# Altium schematic symbol library 3.7 - MSP430系列单片机.SchLib: 80 symbols (part 2 of 2)
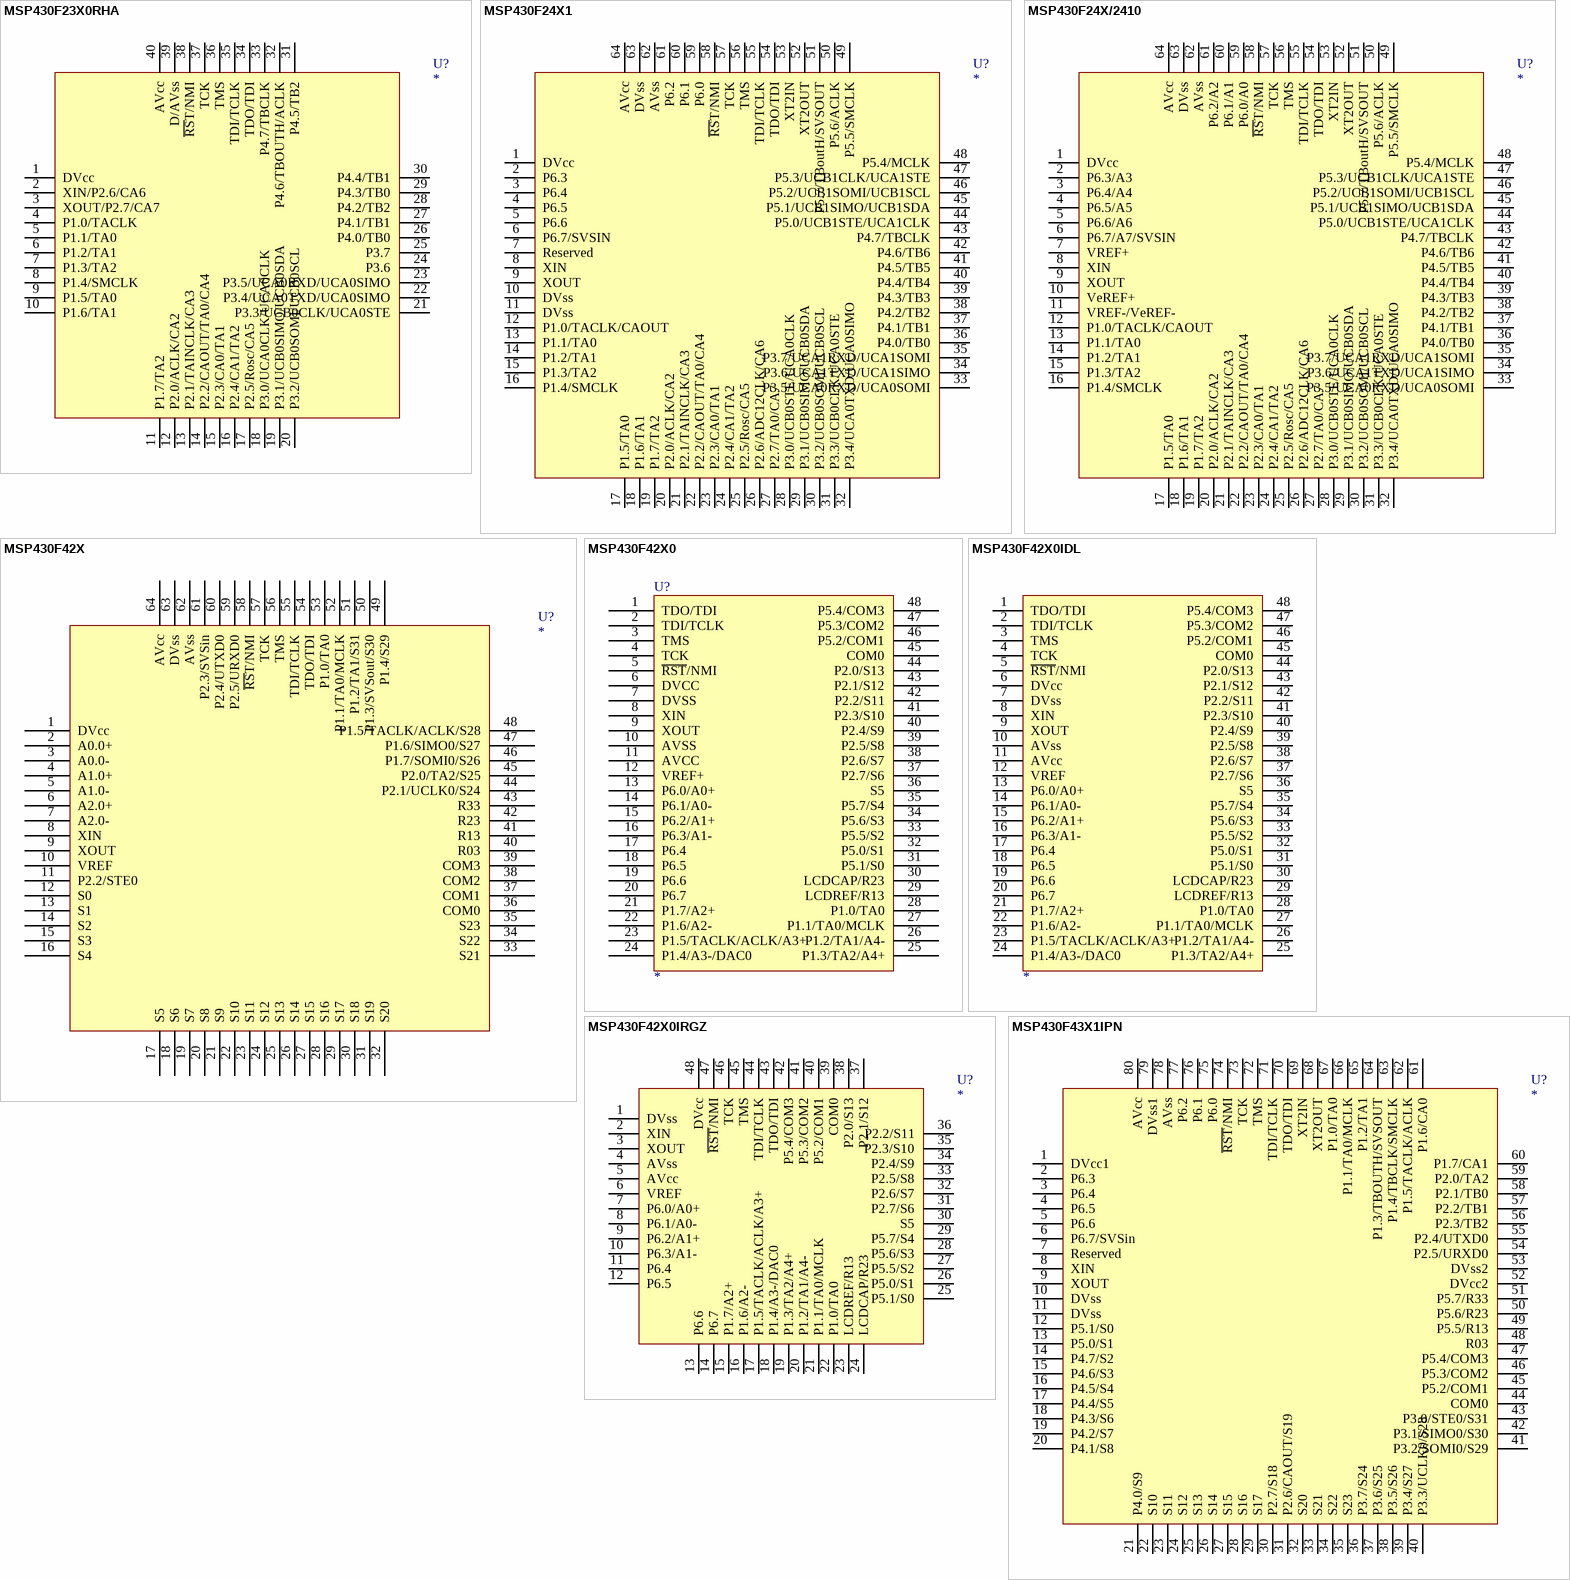
[diagram p12: symbols MSP430F23X0RHA to MSP430F43X1IPN]

## MSP430F24X/2410
designator U?
footprint S-PQFP-G64
pins: 1 DVcc (power), 2 P6.3/A3 (power), 3 P6.4/A4 (power), 4 P6.5/A5 (power), 5 P6.6/A6 (power), 6 P6.7/A7/SVSIN (power), 7 VREF+ (power), 8 XIN (power), 9 XOUT (power), 10 VeREF+ (power), 11 VREF-/VeREF- (power), 12 P1.0/TACLK/CAOUT (power), 13 P1.1/TA0 (power), 14 P1.2/TA1 (power), 15 P1.3/TA2 (power), 16 P1.4/SMCLK (power), 17 P1.5/TA0 (power), 18 P1.6/TA1 (power), 19 P1.7/TA2 (power), 20 P2.0/ACLK/CA2 (power), 21 P2.1/TAINCLK/CA3 (power), 22 P2.2/CAOUT/TA0/CA4 (power), 23 P2.3/CA0/TA1 (power), 24 P2.4/CA1/TA2 (power), 25 P2.5/Rosc/CA5 (power), 26 P2.6/ADC12CLK/CA6 (power), 27 P2.7/TA0/CA7 (power), 28 P3.0/UCB0STE/UCA0CLK (power), 29 P3.1/UCB0SIMO/UCB0SDA (power), 30 P3.2/UCB0SOMI/UCB0SCL (power), 31 P3.3/UCB0CLK/UCA0STE (power), 32 P3.4/UCA0TXD/UCA0SIMO (power), 33 P3.5/UCA0RXD/UCA0SOMI (power), 34 P3.6/UCA1TXD/UCA1SIMO (power), 35 P3.7/UCA1RXD/UCA1SOMI (power), 36 P4.0/TB0 (power), 37 P4.1/TB1 (power), 38 P4.2/TB2 (power), 39 P4.3/TB3 (power), 40 P4.4/TB4 (power), 41 P4.5/TB5 (power), 42 P4.6/TB6 (power), 43 P4.7/TBCLK (power), 44 P5.0/UCB1STE/UCA1CLK (power), 45 P5.1/UCB1SIMO/UCB1SDA (power), 46 P5.2/UCB1SOMI/UCB1SCL (power), 47 P5.3/UCB1CLK/UCA1STE (power), 48 P5.4/MCLK (power), 49 P5.5/SMCLK (power), 50 P5.6/ACLK (power), 51 P5.7/TBoutH/SVSOUT (power), 52 XT2OUT (power), 53 XT2IN (power), 54 TDO/TDI (power), 55 TDI/TCLK (power), 56 TMS (power), 57 TCK (power), 58 ~{RS}T/NMI (power), 59 P6.0/A0 (power), 60 P6.1/A1 (power), 61 P6.2/A2 (power), 62 AVss (power), 63 DVss (power), 64 AVcc (power)

## MSP430F42X
designator U?
footprint S-PQFP-G64
pins: 1 DVcc (power), 2 A0.0+ (power), 3 A0.0- (power), 4 A1.0+ (power), 5 A1.0- (power), 6 A2.0+ (power), 7 A2.0- (power), 8 XIN (power), 9 XOUT (power), 10 VREF (power), 11 P2.2/STE0 (power), 12 S0 (power), 13 S1 (power), 14 S2 (power), 15 S3 (power), 16 S4 (power), 17 S5 (power), 18 S6 (power), 19 S7 (power), 20 S8 (power), 21 S9 (power), 22 S10 (power), 23 S11 (power), 24 S12 (power), 25 S13 (power), 26 S14 (power), 27 S15 (power), 28 S16 (power), 29 S17 (power), 30 S18 (power), 31 S19 (power), 32 S20 (power), 33 S21 (power), 34 S22 (power), 35 S23 (power), 36 COM0 (power), 37 COM1 (power), 38 COM2 (power), 39 COM3 (power), 40 R03 (power), 41 R13 (power), 42 R23 (power), 43 R33 (power), 44 P2.1/UCLK0/S24 (power), 45 P2.0/TA2/S25 (power), 46 P1.7/SOMI0/S26 (power), 47 P1.6/SIMO0/S27 (power), 48 P1.5/TACLK/ACLK/S28 (power), 49 P1.4/S29 (power), 50 P1.3/SVSout/S30 (power), 51 P1.2/TA1/S31 (power), 52 P1.1/TA0/MCLK (power), 53 P1.0/TA0 (power), 54 TDO/TDI (power), 55 TDI/TCLK (power), 56 TMS (power), 57 TCK (power), 58 ~{RS}T/NMI (power), 59 P2.5/URXD0 (power), 60 P2.4/UTXD0 (power), 61 P2.3/SVSin (power), 62 AVss (power), 63 DVss (power), 64 AVcc (power)

## MSP430F42X0
designator U?
footprint R-PDSO-G48(DL)
footprint TSSOP48
pins: 1 TDO/TDI, 2 TDI/TCLK (power), 3 TMS (power), 4 TCK (power), 5 ~{RST}/NMI (power), 6 DVCC (power), 7 DVSS (power), 8 XIN (power), 9 XOUT (power), 10 AVSS (power), 11 AVCC (power), 12 VREF+ (power), 13 P6.0/A0+ (power), 14 P6.1/A0- (power), 15 P6.2/A1+ (power), 16 P6.3/A1- (power), 17 P6.4 (power), 18 P6.5 (power), 19 P6.6 (power), 20 P6.7 (power), 21 P1.7/A2+, 22 P1.6/A2-, 23 P1.5/TACLK/ACLK/A3+, 24 P1.4/A3-/DAC0, 25 P1.3/TA2/A4+, 26 P1.2/TA1/A4-, 27 P1.1/TA0/MCLK, 28 P1.0/TA0, 29 LCDREF/R13, 30 LCDCAP/R23, 31 P5.1/S0, 32 P5.0/S1, 33 P5.5/S2, 34 P5.6/S3, 35 P5.7/S4, 36 S5, 37 P2.7/S6, 38 P2.6/S7, 39 P2.5/S8, 40 P2.4/S9, 41 P2.3/S10, 42 P2.2/S11, 43 P2.1/S12, 44 P2.0/S13, 45 COM0, 46 P5.2/COM1, 47 P5.3/COM2, 48 P5.4/COM3

## MSP430F42X0IDL
designator ?
pins: 1 TDO/TDI, 2 TDI/TCLK (power), 3 TMS (power), 4 TCK (power), 5 ~{RST}/NMI (power), 6 DVcc (power), 7 DVss (power), 8 XIN (power), 9 XOUT (power), 10 AVss (power), 11 AVcc (power), 12 VREF (power), 13 P6.0/A0+ (power), 14 P6.1/A0- (power), 15 P6.2/A1+ (power), 16 P6.3/A1- (power), 17 P6.4 (power), 18 P6.5 (power), 19 P6.6 (power), 20 P6.7 (power), 21 P1.7/A2+, 22 P1.6/A2-, 23 P1.5/TACLK/ACLK/A3+, 24 P1.4/A3-/DAC0, 25 P1.3/TA2/A4+, 26 P1.2/TA1/A4-, 27 P1.1/TA0/MCLK, 28 P1.0/TA0, 29 LCDREF/R13, 30 LCDCAP/R23, 31 P5.1/S0, 32 P5.0/S1, 33 P5.5/S2, 34 P5.6/S3, 35 P5.7/S4, 36 S5, 37 P2.7/S6, 38 P2.6/S7, 39 P2.5/S8, 40 P2.4/S9, 41 P2.3/S10, 42 P2.2/S11, 43 P2.1/S12, 44 P2.0/S13, 45 COM0, 46 P5.2/COM1, 47 P5.3/COM2, 48 P5.4/COM3

## MSP430F42X0IRGZ
designator U?
footprint QFN48
pins: 1 DVss (power), 2 XIN (power), 3 XOUT (power), 4 AVss (power), 5 AVcc (power), 6 VREF (power), 7 P6.0/A0+ (power), 8 P6.1/A0- (power), 9 P6.2/A1+ (power), 10 P6.3/A1- (power), 11 P6.4 (power), 12 P6.5 (power), 13 P6.6 (power), 14 P6.7 (power), 15 P1.7/A2+, 16 P1.6/A2-, 17 P1.5/TACLK/ACLK/A3+, 18 P1.4/A3-/DAC0, 19 P1.3/TA2/A4+, 20 P1.2/TA1/A4-, 21 P1.1/TA0/MCLK, 22 P1.0/TA0, 23 LCDREF/R13, 24 LCDCAP/R23, 25 P5.1/S0, 26 P5.0/S1, 27 P5.5/S2, 28 P5.6/S3, 29 P5.7/S4, 30 S5, 31 P2.7/S6, 32 P2.6/S7, 33 P2.5/S8, 34 P2.4/S9, 35 P2.3/S10, 36 P2.2/S11, 37 P2.1/S12, 38 P2.0/S13, 39 COM0, 40 P5.2/COM1, 41 P5.3/COM2, 42 P5.4/COM3, 43 TDO/TDI, 44 TDI/TCLK (power), 45 TMS (power), 46 TCK (power), 47 ~{RST}/NMI (power), 48 DVcc (power)

## MSP430F43X1IPN
designator U?
footprint S-PQFP-G80
pins: 1 DVcc1 (power), 2 P6.3 (power), 3 P6.4 (power), 4 P6.5 (power), 5 P6.6 (power), 6 P6.7/SVSin (power), 7 Reserved (power), 8 XIN (power), 9 XOUT (power), 10 DVss (power), 11 DVss (power), 12 P5.1/S0 (power), 13 P5.0/S1 (power), 14 P4.7/S2 (power), 15 P4.6/S3 (power), 16 P4.5/S4 (power), 17 P4.4/S5 (power), 18 P4.3/S6 (power), 19 P4.2/S7 (power), 20 P4.1/S8 (power), 21 P4.0/S9 (power), 22 S10 (power), 23 S11 (power), 24 S12 (power), 25 S13 (power), 26 S14 (power), 27 S15 (power), 28 S16 (power), 29 S17 (power), 30 P2.7/S18 (power), 31 P2.6/CAOUT/S19 (power), 32 S20 (power), 33 S21 (power), 34 S22 (power), 35 S23 (power), 36 P3.7/S24 (power), 37 P3.6/S25 (power), 38 P3.5/S26 (power), 39 P3.4/S27 (power), 40 P3.3/UCLK0/S28 (power), 41 P3.2/SOMI0/S29 (power), 42 P3.1/SIMO0/S30 (power), 43 P3.0/STE0/S31 (power), 44 COM0 (power), 45 P5.2/COM1 (power), 46 P5.3/COM2 (power), 47 P5.4/COM3 (power), 48 R03 (power), 49 P5.5/R13 (power), 50 P5.6/R23 (power), 51 P5.7/R33 (power), 52 DVcc2 (power), 53 DVss2 (power), 54 P2.5/URXD0 (power), 55 P2.4/UTXD0 (power), 56 P2.3/TB2 (power), 57 P2.2/TB1 (power), 58 P2.1/TB0 (power), 59 P2.0/TA2 (power), 60 P1.7/CA1 (power), 61 P1.6/CA0 (power), 62 P1.5/TACLK/ACLK (power), 63 P1.4/TBCLK/SMCLK (power), 64 P1.3/TBOUTH/SVSOUT (power), 65 P1.2/TA1, 66 P1.1/TA0/MCLK, 67 P1.0/TA0, 68 XT2OUT, 69 XT2IN, 70 TDO/TDI, 71 TDI/TCLK, 72 TMS, 73 TCK, 74 ~{RST}/NMI, 75 P6.0, 76 P6.1, 77 P6.2, 78 AVss, 79 DVss1, 80 AVcc

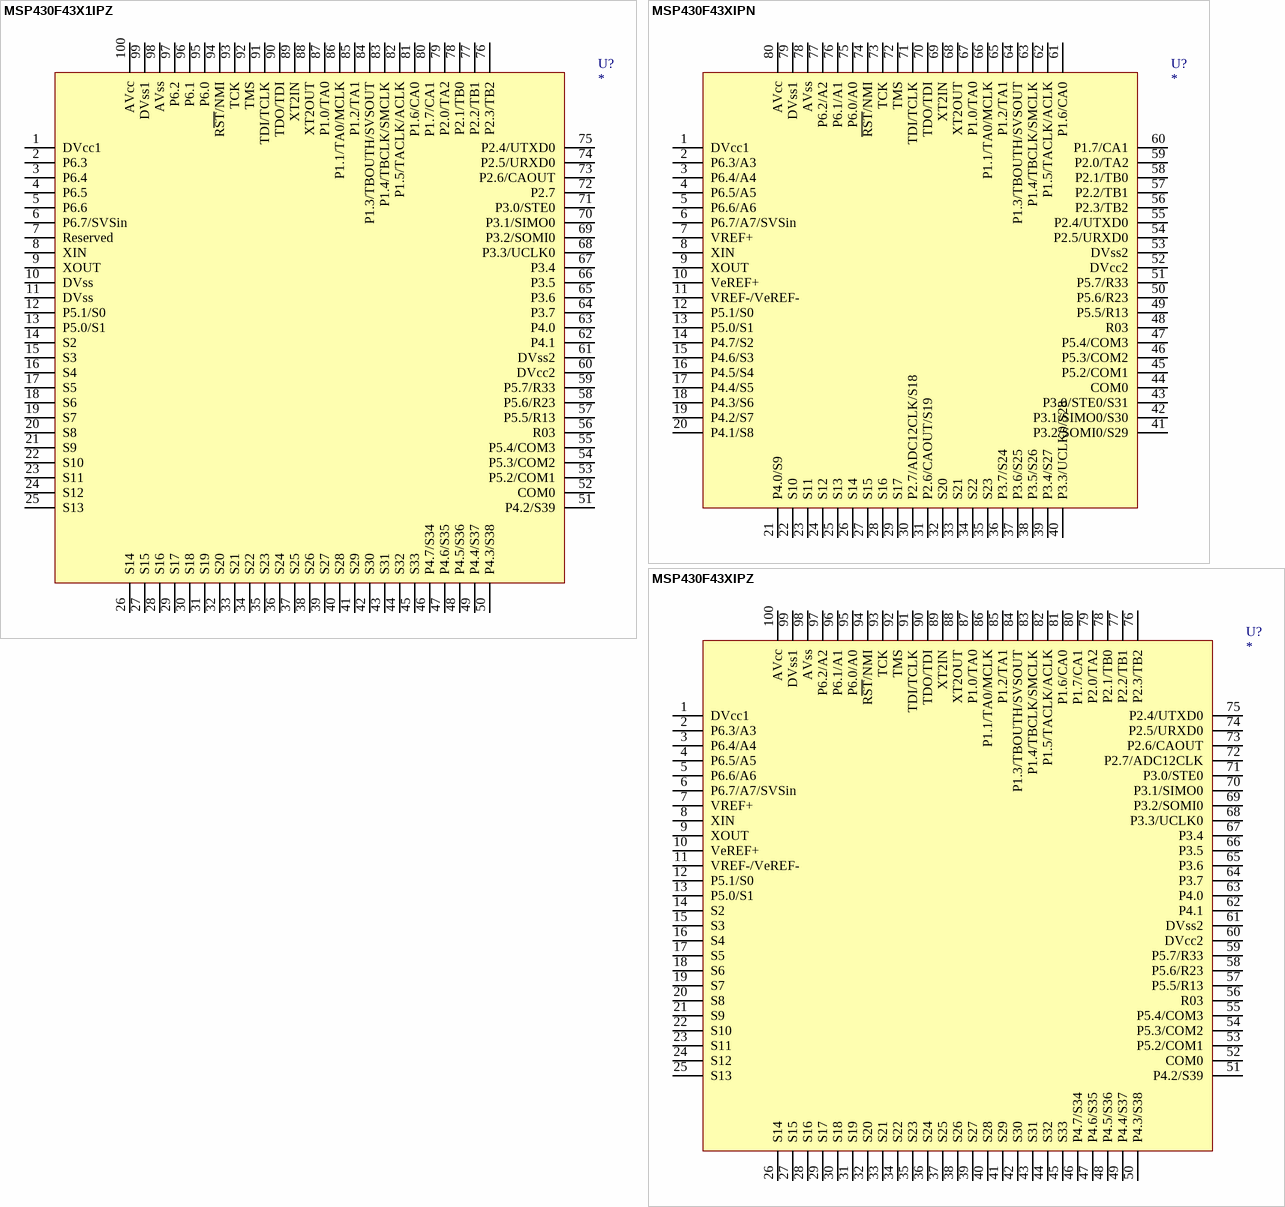
[diagram p6: symbols MSP430F43X1IPZ to MSP430F43XIPZ]

## MSP430F43X1IPZ
designator U?
footprint S-PQFP-G100
pins: 1 DVcc1 (power), 2 P6.3 (power), 3 P6.4 (power), 4 P6.5 (power), 5 P6.6 (power), 6 P6.7/SVSin (power), 7 Reserved (power), 8 XIN (power), 9 XOUT (power), 10 DVss (power), 11 DVss (power), 12 P5.1/S0 (power), 13 P5.0/S1 (power), 14 S2 (power), 15 S3 (power), 16 S4 (power), 17 S5 (power), 18 S6 (power), 19 S7 (power), 20 S8 (power), 21 S9 (power), 22 S10 (power), 23 S11 (power), 24 S12 (power), 25 S13 (power), 26 S14 (power), 27 S15 (power), 28 S16 (power), 29 S17 (power), 30 S18 (power), 31 S19 (power), 32 S20 (power), 33 S21 (power), 34 S22 (power), 35 S23 (power), 36 S24 (power), 37 S25 (power), 38 S26 (power), 39 S27 (power), 40 S28 (power), 41 S29 (power), 42 S30 (power), 43 S31 (power), 44 S32 (power), 45 S33 (power), 46 P4.7/S34 (power), 47 P4.6/S35 (power), 48 P4.5/S36 (power), 49 P4.4/S37 (power), 50 P4.3/S38 (power), 51 P4.2/S39 (power), 52 COM0 (power), 53 P5.2/COM1 (power), 54 P5.3/COM2 (power), 55 P5.4/COM3 (power), 56 R03 (power), 57 P5.5/R13 (power), 58 P5.6/R23 (power), 59 P5.7/R33 (power), 60 DVcc2 (power), 61 DVss2 (power), 62 P4.1 (power), 63 P4.0 (power), 64 P3.7 (power), 65 P3.6, 66 P3.5, 67 P3.4, 68 P3.3/UCLK0, 69 P3.2/SOMI0, 70 P3.1/SIMO0, 71 P3.0/STE0, 72 P2.7, 73 P2.6/CAOUT, 74 P2.5/URXD0, 75 P2.4/UTXD0, 76 P2.3/TB2, 77 P2.2/TB1, 78 P2.1/TB0, 79 P2.0/TA2, 80 P1.7/CA1, 81 P1.6/CA0, 82 P1.5/TACLK/ACLK, 83 P1.4/TBCLK/SMCLK, 84 P1.3/TBOUTH/SVSOUT, 85 P1.2/TA1, 86 P1.1/TA0/MCLK, 87 P1.0/TA0, 88 XT2OUT, 89 XT2IN, 90 TDO/TDI, 91 TDI/TCLK, 92 TMS, 93 TCK, 94 R~{ST}/NMI, 95 P6.0, 96 P6.1, 97 P6.2, 98 AVss, 99 DVss1, 100 AVcc

## MSP430F43XIPN
designator U?
footprint S-PQFP-G80
pins: 1 DVcc1 (power), 2 P6.3/A3 (power), 3 P6.4/A4 (power), 4 P6.5/A5 (power), 5 P6.6/A6 (power), 6 P6.7/A7/SVSin (power), 7 VREF+ (power), 8 XIN (power), 9 XOUT (power), 10 VeREF+ (power), 11 VREF-/VeREF- (power), 12 P5.1/S0 (power), 13 P5.0/S1 (power), 14 P4.7/S2 (power), 15 P4.6/S3 (power), 16 P4.5/S4 (power), 17 P4.4/S5 (power), 18 P4.3/S6 (power), 19 P4.2/S7 (power), 20 P4.1/S8 (power), 21 P4.0/S9 (power), 22 S10 (power), 23 S11 (power), 24 S12 (power), 25 S13 (power), 26 S14 (power), 27 S15 (power), 28 S16 (power), 29 S17 (power), 30 P2.7/ADC12CLK/S18 (power), 31 P2.6/CAOUT/S19 (power), 32 S20 (power), 33 S21 (power), 34 S22 (power), 35 S23 (power), 36 P3.7/S24 (power), 37 P3.6/S25 (power), 38 P3.5/S26 (power), 39 P3.4/S27 (power), 40 P3.3/UCLK0/S28 (power), 41 P3.2/SOMI0/S29 (power), 42 P3.1/SIMO0/S30 (power), 43 P3.0/STE0/S31 (power), 44 COM0 (power), 45 P5.2/COM1 (power), 46 P5.3/COM2 (power), 47 P5.4/COM3 (power), 48 R03 (power), 49 P5.5/R13 (power), 50 P5.6/R23 (power), 51 P5.7/R33 (power), 52 DVcc2 (power), 53 DVss2 (power), 54 P2.5/URXD0 (power), 55 P2.4/UTXD0 (power), 56 P2.3/TB2 (power), 57 P2.2/TB1 (power), 58 P2.1/TB0 (power), 59 P2.0/TA2 (power), 60 P1.7/CA1 (power), 61 P1.6/CA0 (power), 62 P1.5/TACLK/ACLK (power), 63 P1.4/TBCLK/SMCLK (power), 64 P1.3/TBOUTH/SVSOUT (power), 65 P1.2/TA1, 66 P1.1/TA0/MCLK, 67 P1.0/TA0, 68 XT2OUT, 69 XT2IN, 70 TDO/TDI, 71 TDI/TCLK, 72 TMS, 73 TCK, 74 ~{RST}/NMI, 75 P6.0/A0, 76 P6.1/A1, 77 P6.2/A2, 78 AVss, 79 DVss1, 80 AVcc

## MSP430F43XIPZ
designator U?
footprint S-PQFP-G100
pins: 1 DVcc1 (power), 2 P6.3/A3 (power), 3 P6.4/A4 (power), 4 P6.5/A5 (power), 5 P6.6/A6 (power), 6 P6.7/A7/SVSin (power), 7 VREF+ (power), 8 XIN (power), 9 XOUT (power), 10 VeREF+ (power), 11 VREF-/VeREF- (power), 12 P5.1/S0 (power), 13 P5.0/S1 (power), 14 S2 (power), 15 S3 (power), 16 S4 (power), 17 S5 (power), 18 S6 (power), 19 S7 (power), 20 S8 (power), 21 S9 (power), 22 S10 (power), 23 S11 (power), 24 S12 (power), 25 S13 (power), 26 S14 (power), 27 S15 (power), 28 S16 (power), 29 S17 (power), 30 S18 (power), 31 S19 (power), 32 S20 (power), 33 S21 (power), 34 S22 (power), 35 S23 (power), 36 S24 (power), 37 S25 (power), 38 S26 (power), 39 S27 (power), 40 S28 (power), 41 S29 (power), 42 S30 (power), 43 S31 (power), 44 S32 (power), 45 S33 (power), 46 P4.7/S34 (power), 47 P4.6/S35 (power), 48 P4.5/S36 (power), 49 P4.4/S37 (power), 50 P4.3/S38 (power), 51 P4.2/S39 (power), 52 COM0 (power), 53 P5.2/COM1 (power), 54 P5.3/COM2 (power), 55 P5.4/COM3 (power), 56 R03 (power), 57 P5.5/R13 (power), 58 P5.6/R23 (power), 59 P5.7/R33 (power), 60 DVcc2 (power), 61 DVss2 (power), 62 P4.1 (power), 63 P4.0 (power), 64 P3.7 (power), 65 P3.6, 66 P3.5, 67 P3.4, 68 P3.3/UCLK0, 69 P3.2/SOMI0, 70 P3.1/SIMO0, 71 P3.0/STE0, 72 P2.7/ADC12CLK, 73 P2.6/CAOUT, 74 P2.5/URXD0, 75 P2.4/UTXD0, 76 P2.3/TB2, 77 P2.2/TB1, 78 P2.1/TB0, 79 P2.0/TA2, 80 P1.7/CA1, 81 P1.6/CA0, 82 P1.5/TACLK/ACLK, 83 P1.4/TBCLK/SMCLK, 84 P1.3/TBOUTH/SVSOUT, 85 P1.2/TA1, 86 P1.1/TA0/MCLK, 87 P1.0/TA0, 88 XT2OUT, 89 XT2IN, 90 TDO/TDI, 91 TDI/TCLK, 92 TMS, 93 TCK, 94 R~{ST}/NMI, 95 P6.0/A0, 96 P6.1/A1, 97 P6.2/A2, 98 AVss, 99 DVss1, 100 AVcc

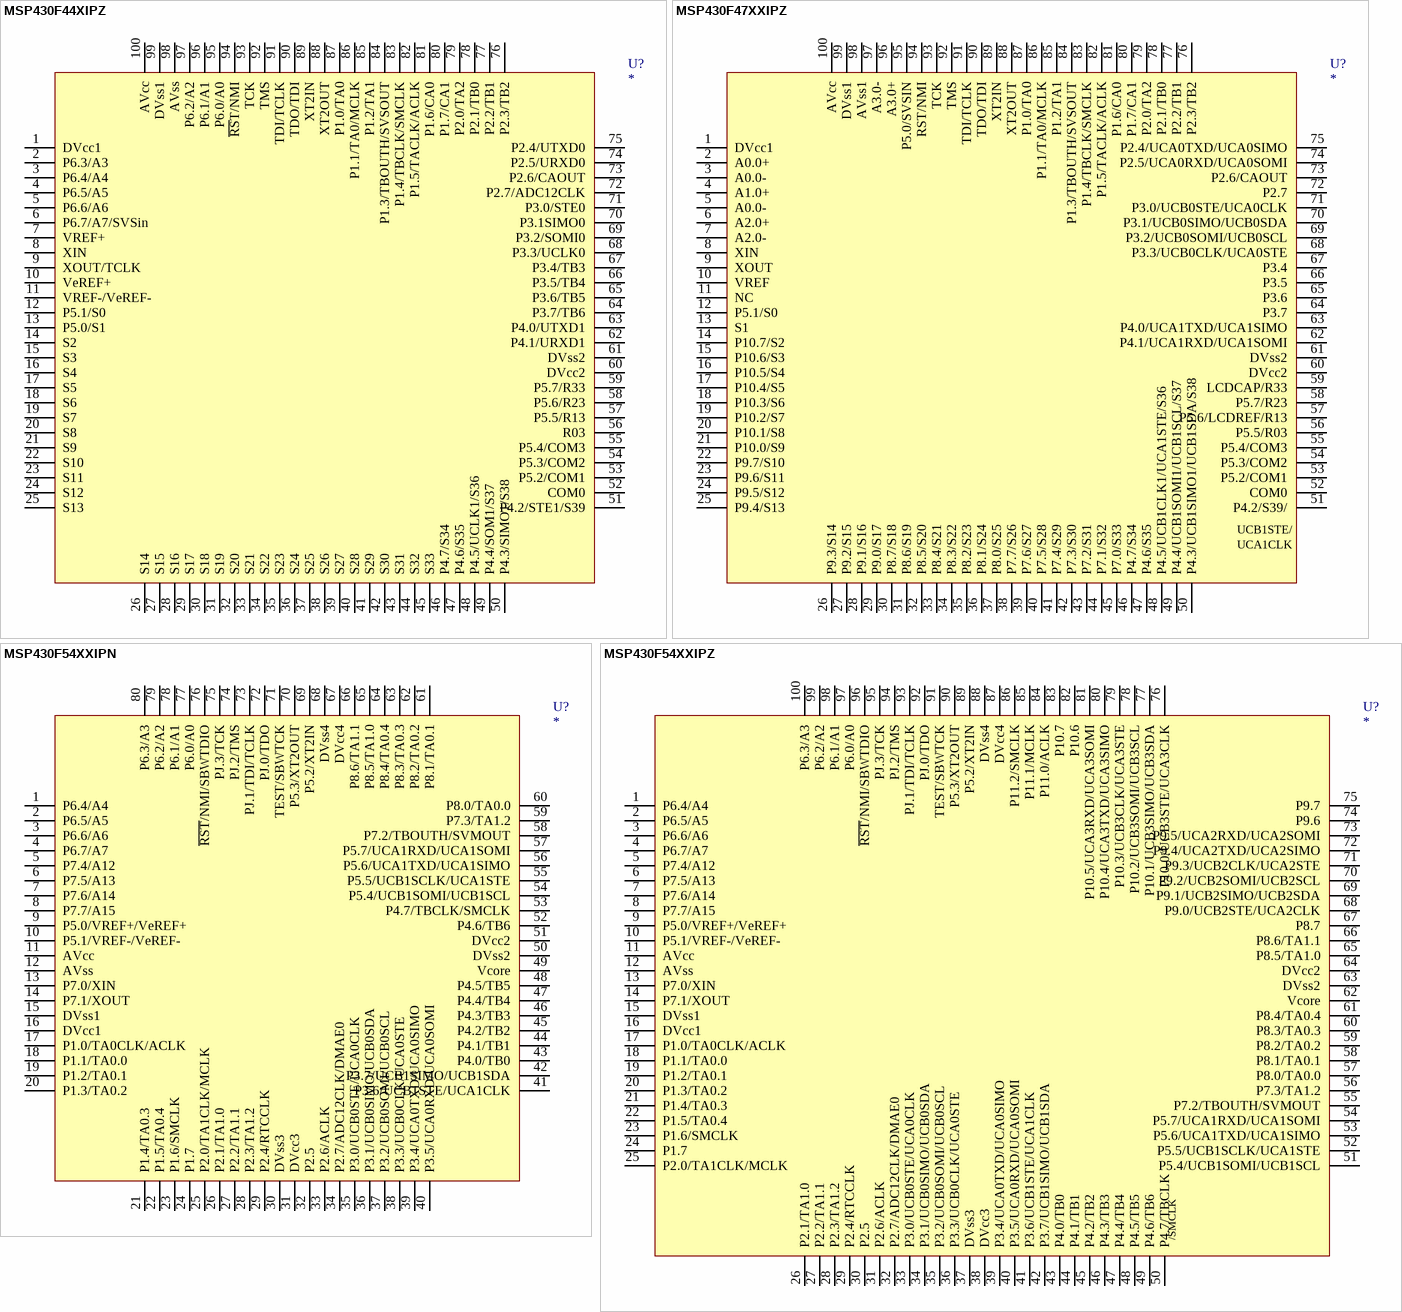
[diagram p7: symbols MSP430F44XIPZ to MSP430F54XXIPZ]

## MSP430F44XIPZ
designator U?
footprint S-PQFP-G100
pins: 1 DVcc1, 2 P6.3/A3, 3 P6.4/A4, 4 P6.5/A5, 5 P6.6/A6, 6 P6.7/A7/SVSin, 7 VREF+, 8 XIN, 9 XOUT/TCLK, 10 VeREF+, 11 VREF-/VeREF-, 12 P5.1/S0, 13 P5.0/S1, 14 S2, 15 S3, 16 S4, 17 S5, 18 S6, 19 S7, 20 S8, 21 S9, 22 S10, 23 S11, 24 S12, 25 S13, 26 S14, 27 S15, 28 S16, 29 S17, 30 S18, 31 S19, 32 S20, 33 S21, 34 S22, 35 S23, 36 S24, 37 S25, 38 S26, 39 S27, 40 S28, 41 S29, 42 S30, 43 S31, 44 S32, 45 S33, 46 P4.7/S34, 47 P4.6/S35, 48 P4.5/UCLK1/S36, 49 P4.4/SOM1/S37, 50 P4.3/SIMO1/S38, 51 P4.2/STE1/S39, 52 COM0, 53 P5.2/COM1, 54 P5.3/COM2, 55 P5.4/COM3, 56 R03, 57 P5.5/R13, 58 P5.6/R23, 59 P5.7/R33, 60 DVcc2, 61 DVss2, 62 P4.1/URXD1, 63 P4.0/UTXD1, 64 P3.7/TB6, 65 P3.6/TB5, 66 P3.5/TB4, 67 P3.4/TB3, 68 P3.3/UCLK0, 69 P3.2/SOMI0, 70 P3.1SIMO0, 71 P3.0/STE0, 72 P2.7/ADC12CLK, 73 P2.6/CAOUT, 74 P2.5/URXD0, 75 P2.4/UTXD0, 76 P2.3/TB2, 77 P2.2/TB1, 78 P2.1/TB0, 79 P2.0/TA2, 80 P1.7/CA1, 81 P1.6/CA0, 82 P1.5/TACLK/ACLK, 83 P1.4/TBCLK/SMCLK, 84 P1.3/TBOUTH/SVSOUT, 85 P1.2/TA1, 86 P1.1/TA0/MCLK, 87 P1.0/TA0, 88 XT2OUT, 89 XT2IN, 90 TDO/TDI, 91 TDI/TCLK, 92 TMS, 93 TCK, 94 ~{RS}T/NMI, 95 P6.0/A0, 96 P6.1/A1, 97 P6.2/A2, 98 AVss, 99 DVss1, 100 AVcc

## MSP430F47XXIPZ
designator U?
footprint S-PQFP-G100
pins: 1 DVcc1, 2 A0.0+, 3 A0.0-, 4 A1.0+, 5 A0.0-, 6 A2.0+, 7 A2.0-, 8 XIN, 9 XOUT, 10 VREF, 11 NC, 12 P5.1/S0, 13 S1, 14 P10.7/S2, 15 P10.6/S3, 16 P10.5/S4, 17 P10.4/S5, 18 P10.3/S6, 19 P10.2/S7, 20 P10.1/S8, 21 P10.0/S9, 22 P9.7/S10, 23 P9.6/S11, 24 P9.5/S12, 25 P9.4/S13, 26 P9.3/S14, 27 P9.2/S15, 28 P9.1/S16, 29 P9.0/S17, 30 P8.7/S18, 31 P8.6/S19, 32 P8.5/S20, 33 P8.4/S21, 34 P8.3/S22, 35 P8.2/S23, 36 P8.1/S24, 37 P8.0/S25, 38 P7.7/S26, 39 P7.6/S27, 40 P7.5/S28, 41 P7.4/S29, 42 P7.3/S30, 43 P7.2/S31, 44 P7.1/S32, 45 P7.0/S33, 46 P4.7/S34, 47 P4.6/S35, 48 P4.5/UCB1CLK1/UCA1STE/S36, 49 P4.4/UCB1SOMI1/UCB1SCL/S37, 50 P4.3/UCB1SIMO1/UCB1SDA/S38, 51 P4.2/S39/, 52 COM0, 53 P5.2/COM1, 54 P5.3/COM2, 55 P5.4/COM3, 56 P5.5/R03, 57 P5.6/LCDREF/R13, 58 P5.7/R23, 59 LCDCAP/R33, 60 DVcc2, 61 DVss2, 62 P4.1/UCA1RXD/UCA1SOMI, 63 P4.0/UCA1TXD/UCA1SIMO, 64 P3.7, 65 P3.6, 66 P3.5, 67 P3.4, 68 P3.3/UCB0CLK/UCA0STE, 69 P3.2/UCB0SOMI/UCB0SCL, 70 P3.1/UCB0SIMO/UCB0SDA, 71 P3.0/UCB0STE/UCA0CLK, 72 P2.7, 73 P2.6/CAOUT, 74 P2.5/UCA0RXD/UCA0SOMI, 75 P2.4/UCA0TXD/UCA0SIMO, 76 P2.3/TB2, 77 P2.2/TB1, 78 P2.1/TB0, 79 P2.0/TA2, 80 P1.7/CA1, 81 P1.6/CA0, 82 P1.5/TACLK/ACLK, 83 P1.4/TBCLK/SMCLK, 84 P1.3/TBOUTH/SVSOUT, 85 P1.2/TA1, 86 P1.1/TA0/MCLK, 87 P1.0/TA0, 88 XT2OUT, 89 XT2IN, 90 TDO/TDI, 91 TDI/TCLK, 92 TMS, 93 TCK, 94 RST/NMI, 95 P5.0/SVSIN, 96 A3.0+, 97 A3.0-, 98 AVss1, 99 DVss1, 100 AVcc
text: UCB1STE/; UCA1CLK

## MSP430F54XXIPN
designator U?
footprint S-PQFP-G80
pins: 1 P6.4/A4, 2 P6.5/A5, 3 P6.6/A6, 4 P6.7/A7, 5 P7.4/A12, 6 P7.5/A13, 7 P7.6/A14, 8 P7.7/A15, 9 P5.0/VREF+/VeREF+, 10 P5.1/VREF-/VeREF-, 11 AVcc, 12 AVss, 13 P7.0/XIN, 14 P7.1/XOUT, 15 DVss1, 16 DVcc1, 17 P1.0/TA0CLK/ACLK, 18 P1.1/TA0.0, 19 P1.2/TA0.1, 20 P1.3/TA0.2, 21 P1.4/TA0.3, 22 P1.5/TA0.4, 23 P1.6/SMCLK, 24 P1.7, 25 P2.0/TA1CLK/MCLK, 26 P2.1/TA1.0, 27 P2.2/TA1.1, 28 P2.3/TA1.2, 29 P2.4/RTCCLK, 30 DVss3, 31 DVcc3, 32 P2.5, 33 P2.6/ACLK, 34 P2.7/ADC12CLK/DMAE0, 35 P3.0/UCB0STE/UCA0CLK, 36 P3.1/UCB0SIMO/UCB0SDA, 37 P3.2/UCB0SOMI/UCB0SCL, 38 P3.3/UCB0CLK/UCA0STE, 39 P3.4/UCA0TXD/UCA0SIMO, 40 P3.5/UCA0RXD/UCA0SOMI, 41 P3.6/UCB1STE/UCA1CLK, 42 P3.7/UCB1SIMO/UCB1SDA, 43 P4.0/TB0, 44 P4.1/TB1, 45 P4.2/TB2, 46 P4.3/TB3, 47 P4.4/TB4, 48 P4.5/TB5, 49 Vcore, 50 DVss2, 51 DVcc2, 52 P4.6/TB6, 53 P4.7/TBCLK/SMCLK, 54 P5.4/UCB1SOMI/UCB1SCL, 55 P5.5/UCB1SCLK/UCA1STE, 56 P5.6/UCA1TXD/UCA1SIMO, 57 P5.7/UCA1RXD/UCA1SOMI, 58 P7.2/TBOUTH/SVMOUT, 59 P7.3/TA1.2, 60 P8.0/TA0.0, 61 P8.1/TA0.1, 62 P8.2/TA0.2, 63 P8.3/TA0.3, 64 P8.4/TA0.4, 65 P8.5/TA1.0, 66 P8.6/TA1.1, 67 DVcc4, 68 DVss4, 69 P5.2/XT2IN, 70 P5.3/XT2OUT, 71 TEST/SBWTCK, 72 PJ.0/TDO, 73 PJ.1/TDI/TCLK, 74 PJ.2/TMS, 75 PJ.3/TCK, 76 ~{RST}/NMI/SBWTDIO, 77 P6.0/A0, 78 P6.1/A1, 79 P6.2/A2, 80 P6.3/A3

## MSP430F54XXIPZ
designator U?
footprint S-PQFP-G100
pins: 1 P6.4/A4, 2 P6.5/A5, 3 P6.6/A6, 4 P6.7/A7, 5 P7.4/A12, 6 P7.5/A13, 7 P7.6/A14, 8 P7.7/A15, 9 P5.0/VREF+/VeREF+, 10 P5.1/VREF-/VeREF-, 11 AVcc, 12 AVss, 13 P7.0/XIN, 14 P7.1/XOUT, 15 DVss1, 16 DVcc1, 17 P1.0/TA0CLK/ACLK, 18 P1.1/TA0.0, 19 P1.2/TA0.1, 20 P1.3/TA0.2, 21 P1.4/TA0.3, 22 P1.5/TA0.4, 23 P1.6/SMCLK, 24 P1.7, 25 P2.0/TA1CLK/MCLK, 26 P2.1/TA1.0, 27 P2.2/TA1.1, 28 P2.3/TA1.2, 29 P2.4/RTCCLK, 30 P2.5, 31 P2.6/ACLK, 32 P2.7/ADC12CLK/DMAE0, 33 P3.0/UCB0STE/UCA0CLK, 34 P3.1/UCB0SIMO/UCB0SDA, 35 P3.2/UCB0SOMI/UCB0SCL, 36 P3.3/UCB0CLK/UCA0STE, 37 DVss3, 38 DVcc3, 39 P3.4/UCA0TXD/UCA0SIMO, 40 P3.5/UCA0RXD/UCA0SOMI, 41 P3.6/UCB1STE/UCA1CLK, 42 P3.7/UCB1SIMO/UCB1SDA, 43 P4.0/TB0, 44 P4.1/TB1, 45 P4.2/TB2, 46 P4.3/TB3, 47 P4.4/TB4, 48 P4.5/TB5, 49 P4.6/TB6, 50 P4.7/TBCLK, 51 P5.4/UCB1SOMI/UCB1SCL, 52 P5.5/UCB1SCLK/UCA1STE, 53 P5.6/UCA1TXD/UCA1SIMO, 54 P5.7/UCA1RXD/UCA1SOMI, 55 P7.2/TBOUTH/SVMOUT, 56 P7.3/TA1.2, 57 P8.0/TA0.0, 58 P8.1/TA0.1, 59 P8.2/TA0.2, 60 P8.3/TA0.3, 61 P8.4/TA0.4, 62 Vcore, 63 DVss2, 64 DVcc2, 65 P8.5/TA1.0, 66 P8.6/TA1.1, 67 P8.7, 68 P9.0/UCB2STE/UCA2CLK, 69 P9.1/UCB2SIMO/UCB2SDA, 70 P9.2/UCB2SOMI/UCB2SCL, 71 P9.3/UCB2CLK/UCA2STE, 72 P9.4/UCA2TXD/UCA2SIMO, 73 P9.5/UCA2RXD/UCA2SOMI, 74 P9.6, 75 P9.7, 76 P10.0/UCB3STE/UCA3CLK, 77 P10.1/UCB3SIMO/UCB3SDA, 78 P10.2/UCB3SOMI/UCB3SCL, 79 P10.3/UCB3CLK/UCA3STE, 80 P10.4/UCA3TXD/UCA3SIMO, 81 P10.5/UCA3RXD/UCA3SOMI, 82 P10.6, 83 P10.7, 84 P11.0/ACLK, 85 P11.1/MCLK, 86 P11.2/SMCLK, 87 DVcc4, 88 DVss4, 89 P5.2/XT2IN, 90 P5.3/XT2OUT, 91 TEST/SBWTCK, 92 PJ.0/TDO, 93 PJ.1/TDI/TCLK, 94 PJ.2/TMS, 95 PJ.3/TCK, 96 ~{RST}/NMI/SBWTDIO, 97 P6.0/A0, 98 P6.1/A1, 99 P6.2/A2, 100 P6.3/A3
text: /SMCLK

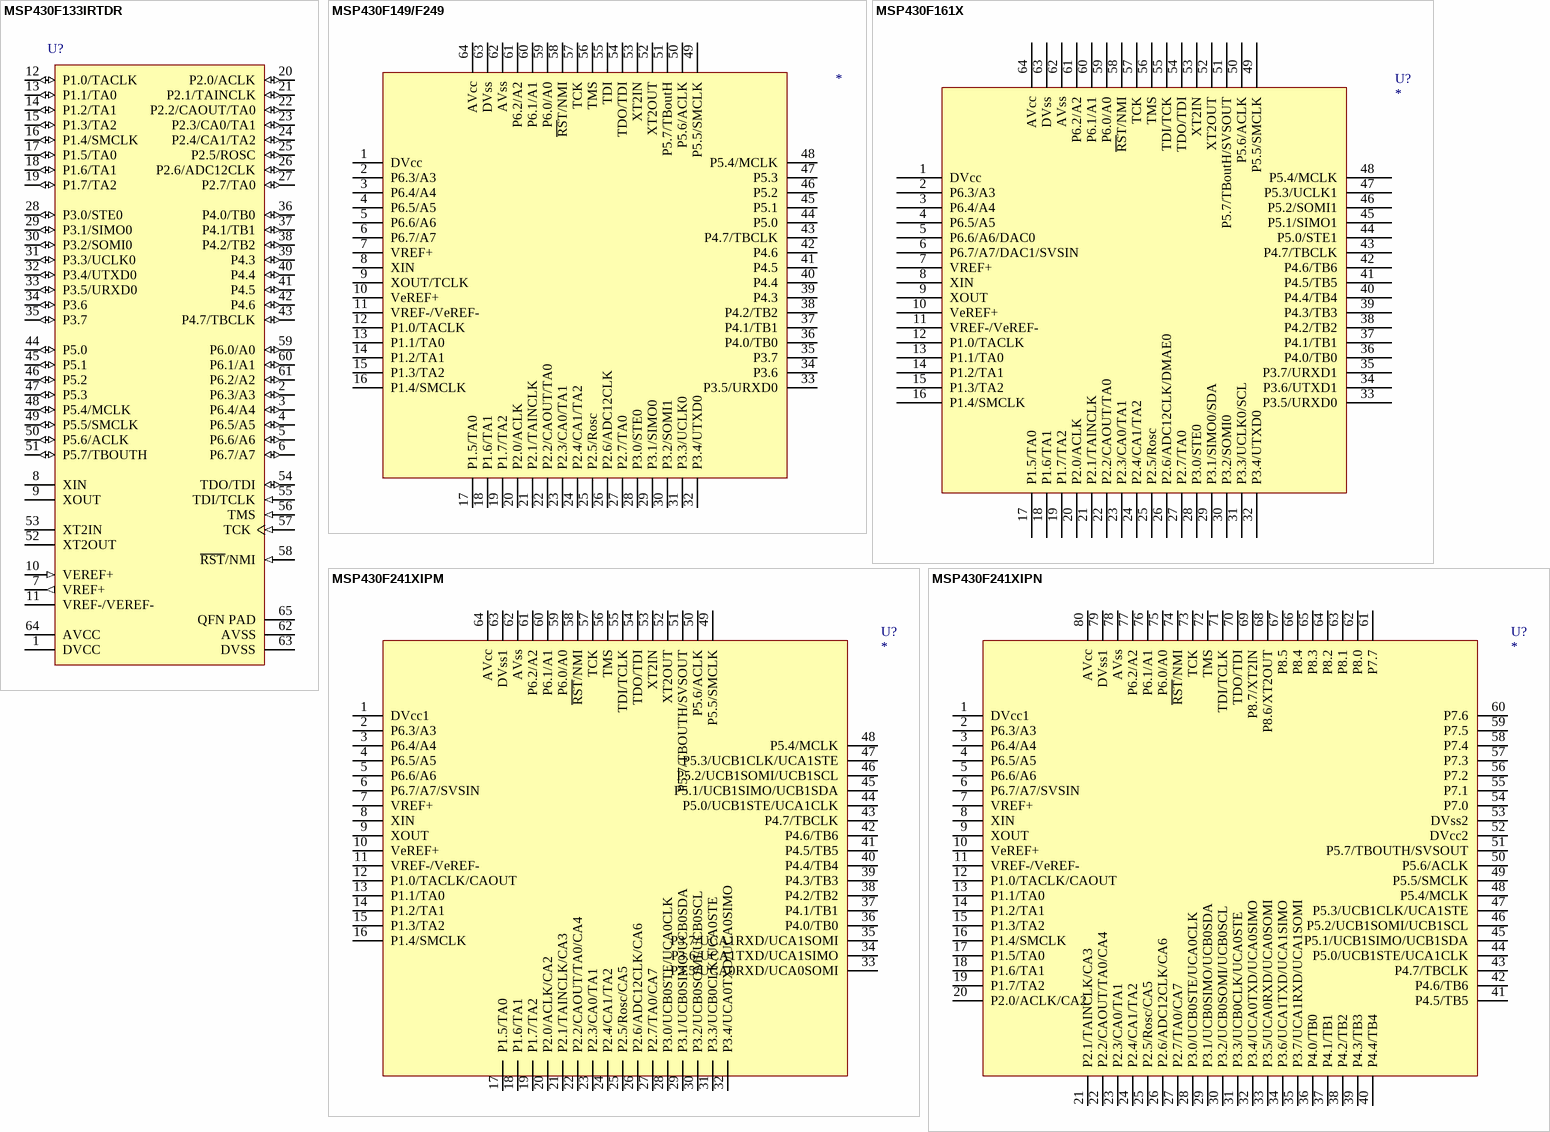
[diagram p8: symbols MSP430F133IRTDR to MSP430F241XIPN]

## MSP430F133IRTDR
designator U?
8 MHz Mixed Signal Microcontroller with 8 KB Flash, 256 B SRAM and 48 GPIOs, -40 to 85 degC, 64-pin QFN (RTD), Green (RoHS & no Sb/Br); 1.库作者: 冰凌猫; 2.库版本: v2.0 (2021.03.30); 3.交流分享: Q群514746572,开源更新,欢迎一起交流学习PCB设计; 4.作者声明: 旨为整合最全库集,欢迎转载,禁止商用！-冰凌猫; 5.备注说明: 该库已二次整合过网上各热销库,基本最全,无需重复搜购安装
footprint QFN64 9x9_N (64脚，长x宽x高：9x9x1mm，脚距：0.5mm  淘宝ID:黄晶宝石)
pins: 1 DVCC (power) "Digital supply voltage, positive terminal. Supplies all digital parts.", 2 P6.3/A3 (io), 3 P6.4/A4 (io), 4 P6.5/A5 (io), 5 P6.6/A6 (io), 6 P6.7/A7 (io), 7 VREF+ (out) "Output of positive terminal of the reference voltage in the ADC", 8 XIN "Input port for crystal oscillator XT1. Standard or watch crystals can be connected.", 9 XOUT "Output terminal of crystal oscillator XT1", 10 VEREF+ (in) "Input for an external reference voltage to the ADC", 11 VREF-/VEREF-, 12 P1.0/TACLK (io), 13 P1.1/TA0 (io), 14 P1.2/TA1 (io), 15 P1.3/TA2 (io), 16 P1.4/SMCLK (io), 17 P1.5/TA0 (io), 18 P1.6/TA1 (io), 19 P1.7/TA2 (io), 20 P2.0/ACLK (io), 21 P2.1/TAINCLK (io), 22 P2.2/CAOUT/TA0 (io), 23 P2.3/CA0/TA1 (io), 24 P2.4/CA1/TA2 (io), 25 P2.5/ROSC (io), 26 P2.6/ADC12CLK (io), 27 P2.7/TA0 (io), 28 P3.0/STE0 (io), 29 P3.1/SIMO0 (io), 30 P3.2/SOMI0 (io), 31 P3.3/UCLK0 (io), 32 P3.4/UTXD0 (io), 33 P3.5/URXD0 (io), 34 P3.6 (io) "General-purpose digital I/O pin", 35 P3.7 (io) "General-purpose digital I/O pin", 36 P4.0/TB0 (io), 37 P4.1/TB1 (io), 38 P4.2/TB2 (io), 39 P4.3 (io) "General-purpose digital I/O pin", 40 P4.4 (io) "General-purpose digital I/O pin", 41 P4.5 (io) "General-purpose digital I/O pin", 42 P4.6 (io) "General-purpose digital I/O pin", 43 P4.7/TBCLK (io), 44 P5.0 (io) "General-purpose digital I/O pin", 45 P5.1 (io) "General-purpose digital I/O pin", 46 P5.2 (io) "General-purpose digital I/O pin", 47 P5.3 (io) "General-purpose digital I/O pin", 48 P5.4/MCLK (io), 49 P5.5/SMCLK (io), 50 P5.6/ACLK (io), 51 P5.7/TBOUTH (io), 52 XT2OUT "Output terminal of crystal oscillator XT2", 53 XT2IN "Input port for crystal oscillator XT2. Only standard crystals can be connected.", 54 TDO/TDI (io), 55 TDI/TCLK (in), 56 TMS (in) "Test mode select. TMS is used as an input port for device programming and test.", 57 TCK (in) "Test clock. TCK is the clock input port for device programming test and bootstrap loader start (in Flash devices}.", 58 ~{RST}/NMI (in), 59 P6.0/A0 (io), 60 P6.1/A1 (io), 61 P6.2/A2 (io), 62 AVSS (power) "Analog supply voltage, negative terminal. Supplies the analog portion of the analog-to-digital converter.", 63 DVSS (power) "Digital supply voltage, negative terminal. Supplies all digital parts.", 64 AVCC (power) "Analog supply voltage, positive terminal. Supplies the analog portion of the analog-to-digital converter.", 65 QFN PAD (power) "QFN package pad connection to DVSS recommended."

## MSP430F149/F249
designator ?
pins: 1 DVcc (power), 2 P6.3/A3 (power), 3 P6.4/A4 (power), 4 P6.5/A5 (power), 5 P6.6/A6 (power), 6 P6.7/A7 (power), 7 VREF+ (power), 8 XIN (power), 9 XOUT/TCLK (power), 10 VeREF+ (power), 11 VREF-/VeREF- (power), 12 P1.0/TACLK (power), 13 P1.1/TA0 (power), 14 P1.2/TA1 (power), 15 P1.3/TA2 (power), 16 P1.4/SMCLK (power), 17 P1.5/TA0 (power), 18 P1.6/TA1 (power), 19 P1.7/TA2 (power), 20 P2.0/ACLK (power), 21 P2.1/TAINCLK (power), 22 P2.2/CAOUT/TA0 (power), 23 P2.3/CA0/TA1 (power), 24 P2.4/CA1/TA2 (power), 25 P2.5/Rosc (power), 26 P2.6/ADC12CLK (power), 27 P2.7/TA0 (power), 28 P3.0/STE0 (power), 29 P3.1/SIMO0 (power), 30 P3.2/SOMI1 (power), 31 P3.3/UCLK0 (power), 32 P3.4/UTXD0 (power), 33 P3.5/URXD0 (power), 34 P3.6 (power), 35 P3.7 (power), 36 P4.0/TB0 (power), 37 P4.1/TB1 (power), 38 P4.2/TB2 (power), 39 P4.3 (power), 40 P4.4 (power), 41 P4.5 (power), 42 P4.6 (power), 43 P4.7/TBCLK (power), 44 P5.0 (power), 45 P5.1 (power), 46 P5.2 (power), 47 P5.3 (power), 48 P5.4/MCLK (power), 49 P5.5/SMCLK (power), 50 P5.6/ACLK (power), 51 P5.7/TBoutH (power), 52 XT2OUT (power), 53 XT2IN (power), 54 TDO/TDI (power), 55 TDI (power), 56 TMS (power), 57 TCK (power), 58 ~{RS}T/NMI (power), 59 P6.0/A0 (power), 60 P6.1/A1 (power), 61 P6.2/A2 (power), 62 AVss (power), 63 DVss (power), 64 AVcc (power)

## MSP430F161X
designator U?
footprint S-PQFP-G64
footprint QFN64
pins: 1 DVcc (power), 2 P6.3/A3 (power), 3 P6.4/A4 (power), 4 P6.5/A5 (power), 5 P6.6/A6/DAC0 (power), 6 P6.7/A7/DAC1/SVSIN (power), 7 VREF+ (power), 8 XIN (power), 9 XOUT (power), 10 VeREF+ (power), 11 VREF-/VeREF- (power), 12 P1.0/TACLK (power), 13 P1.1/TA0 (power), 14 P1.2/TA1 (power), 15 P1.3/TA2 (power), 16 P1.4/SMCLK (power), 17 P1.5/TA0 (power), 18 P1.6/TA1 (power), 19 P1.7/TA2 (power), 20 P2.0/ACLK (power), 21 P2.1/TAINCLK (power), 22 P2.2/CAOUT/TA0 (power), 23 P2.3/CA0/TA1 (power), 24 P2.4/CA1/TA2 (power), 25 P2.5/Rosc (power), 26 P2.6/ADC12CLK/DMAE0 (power), 27 P2.7/TA0 (power), 28 P3.0/STE0 (power), 29 P3.1/SIMO0/SDA (power), 30 P3.2/SOMI0 (power), 31 P3.3/UCLK0/SCL (power), 32 P3.4/UTXD0 (power), 33 P3.5/URXD0 (power), 34 P3.6/UTXD1 (power), 35 P3.7/URXD1 (power), 36 P4.0/TB0 (power), 37 P4.1/TB1 (power), 38 P4.2/TB2 (power), 39 P4.3/TB3 (power), 40 P4.4/TB4 (power), 41 P4.5/TB5 (power), 42 P4.6/TB6 (power), 43 P4.7/TBCLK (power), 44 P5.0/STE1 (power), 45 P5.1/SIMO1 (power), 46 P5.2/SOMI1 (power), 47 P5.3/UCLK1 (power), 48 P5.4/MCLK (power), 49 P5.5/SMCLK (power), 50 P5.6/ACLK (power), 51 P5.7/TBoutH/SVSOUT (power), 52 XT2OUT (power), 53 XT2IN (power), 54 TDO/TDI (power), 55 TDI/TCK (power), 56 TMS (power), 57 TCK (power), 58 ~{RS}T/NMI (power), 59 P6.0/A0 (power), 60 P6.1/A1 (power), 61 P6.2/A2 (power), 62 AVss (power), 63 DVss (power), 64 AVcc (power)

## MSP430F241XIPM
designator U?
footprint S-PQFP-G64
pins: 1 DVcc1, 2 P6.3/A3, 3 P6.4/A4, 4 P6.5/A5, 5 P6.6/A6, 6 P6.7/A7/SVSIN, 7 VREF+, 8 XIN, 9 XOUT, 10 VeREF+, 11 VREF-/VeREF-, 12 P1.0/TACLK/CAOUT, 13 P1.1/TA0, 14 P1.2/TA1, 15 P1.3/TA2, 16 P1.4/SMCLK, 17 P1.5/TA0, 18 P1.6/TA1, 19 P1.7/TA2, 20 P2.0/ACLK/CA2, 21 P2.1/TAINCLK/CA3, 22 P2.2/CAOUT/TA0/CA4, 23 P2.3/CA0/TA1, 24 P2.4/CA1/TA2, 25 P2.5/Rosc/CA5, 26 P2.6/ADC12CLK/CA6, 27 P2.7/TA0/CA7, 28 P3.0/UCB0STE/UCA0CLK, 29 P3.1/UCB0SIMO/UCB0SDA, 30 P3.2/UCB0SOMI/UCB0SCL, 31 P3.3/UCB0CLK/UCA0STE, 32 P3.4/UCA0TXD/UCA0SIMO, 33 P3.5/UCA0RXD/UCA0SOMI, 34 P3.6/UCA1TXD/UCA1SIMO, 35 P3.7/UCA1RXD/UCA1SOMI, 36 P4.0/TB0, 37 P4.1/TB1, 38 P4.2/TB2, 39 P4.3/TB3, 40 P4.4/TB4, 41 P4.5/TB5, 42 P4.6/TB6, 43 P4.7/TBCLK, 44 P5.0/UCB1STE/UCA1CLK, 45 P5.1/UCB1SIMO/UCB1SDA, 46 P5.2/UCB1SOMI/UCB1SCL, 47 P5.3/UCB1CLK/UCA1STE, 48 P5.4/MCLK, 49 P5.5/SMCLK, 50 P5.6/ACLK, 51 P5.7/TBOUTH/SVSOUT, 52 XT2OUT, 53 XT2IN, 54 TDO/TDI, 55 TDI/TCLK, 56 TMS, 57 TCK, 58 ~{RST}/NMI, 59 P6.0/A0, 60 P6.1/A1, 61 P6.2/A2, 62 AVss, 63 DVss1, 64 AVcc

## MSP430F241XIPN
designator U?
footprint S-PQFP-G80
pins: 1 DVcc1, 2 P6.3/A3, 3 P6.4/A4, 4 P6.5/A5, 5 P6.6/A6, 6 P6.7/A7/SVSIN, 7 VREF+, 8 XIN, 9 XOUT, 10 VeREF+, 11 VREF-/VeREF-, 12 P1.0/TACLK/CAOUT, 13 P1.1/TA0, 14 P1.2/TA1, 15 P1.3/TA2, 16 P1.4/SMCLK, 17 P1.5/TA0, 18 P1.6/TA1, 19 P1.7/TA2, 20 P2.0/ACLK/CA2, 21 P2.1/TAINCLK/CA3, 22 P2.2/CAOUT/TA0/CA4, 23 P2.3/CA0/TA1, 24 P2.4/CA1/TA2, 25 P2.5/Rosc/CA5, 26 P2.6/ADC12CLK/CA6, 27 P2.7/TA0/CA7, 28 P3.0/UCB0STE/UCA0CLK, 29 P3.1/UCB0SIMO/UCB0SDA, 30 P3.2/UCB0SOMI/UCB0SCL, 31 P3.3/UCB0CLK/UCA0STE, 32 P3.4/UCA0TXD/UCA0SIMO, 33 P3.5/UCA0RXD/UCA0SOMI, 34 P3.6/UCA1TXD/UCA1SIMO, 35 P3.7/UCA1RXD/UCA1SOMI, 36 P4.0/TB0, 37 P4.1/TB1, 38 P4.2/TB2, 39 P4.3/TB3, 40 P4.4/TB4, 41 P4.5/TB5, 42 P4.6/TB6, 43 P4.7/TBCLK, 44 P5.0/UCB1STE/UCA1CLK, 45 P5.1/UCB1SIMO/UCB1SDA, 46 P5.2/UCB1SOMI/UCB1SCL, 47 P5.3/UCB1CLK/UCA1STE, 48 P5.4/MCLK, 49 P5.5/SMCLK, 50 P5.6/ACLK, 51 P5.7/TBOUTH/SVSOUT, 52 DVcc2, 53 DVss2, 54 P7.0, 55 P7.1, 56 P7.2, 57 P7.3, 58 P7.4, 59 P7.5, 60 P7.6, 61 P7.7, 62 P8.0, 63 P8.1, 64 P8.2, 65 P8.3, 66 P8.4, 67 P8.5, 68 P8.6/XT2OUT, 69 P8.7/XT2IN, 70 TDO/TDI, 71 TDI/TCLK, 72 TMS, 73 TCK, 74 ~{RST}/NMI, 75 P6.0/A0, 76 P6.1/A1, 77 P6.2/A2, 78 AVss, 79 DVss1, 80 AVcc

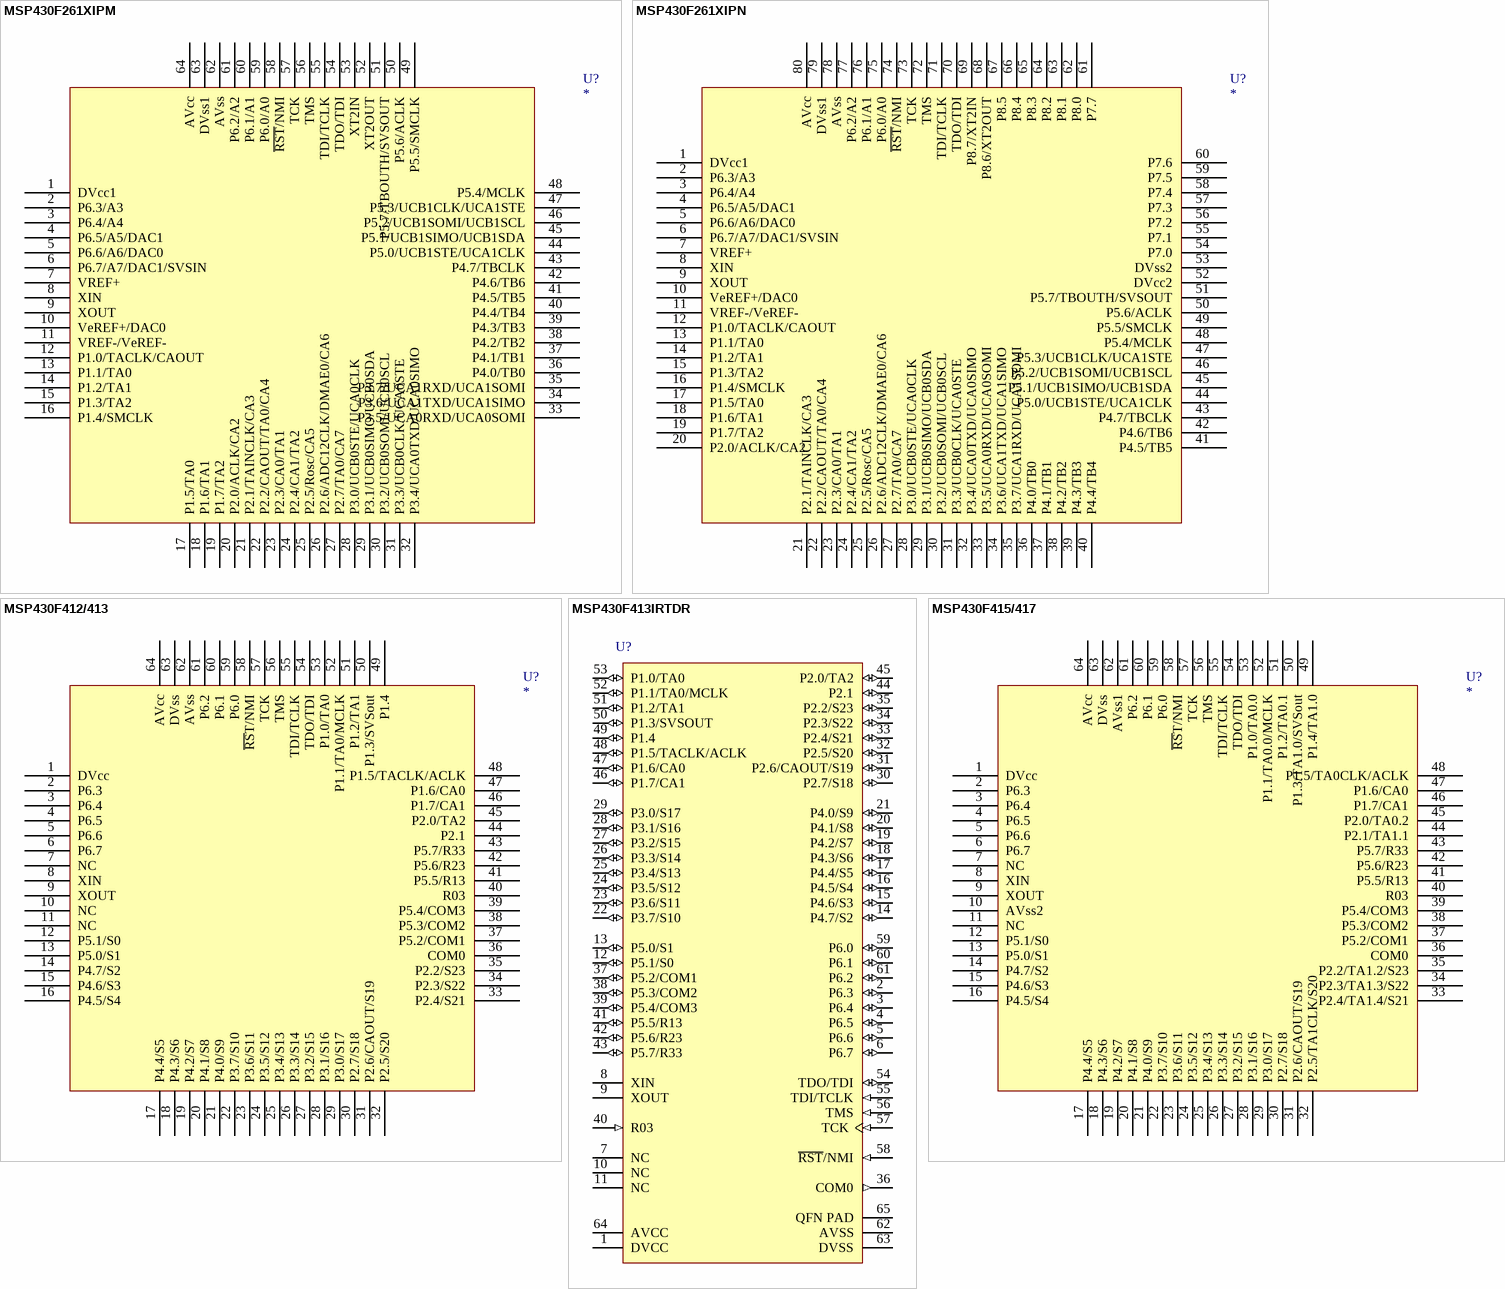
[diagram p9: symbols MSP430F261XIPM to MSP430F415/417]

## MSP430F261XIPM
designator U?
footprint S-PQFP-G64
pins: 1 DVcc1, 2 P6.3/A3, 3 P6.4/A4, 4 P6.5/A5/DAC1, 5 P6.6/A6/DAC0, 6 P6.7/A7/DAC1/SVSIN, 7 VREF+, 8 XIN, 9 XOUT, 10 VeREF+/DAC0, 11 VREF-/VeREF-, 12 P1.0/TACLK/CAOUT, 13 P1.1/TA0, 14 P1.2/TA1, 15 P1.3/TA2, 16 P1.4/SMCLK, 17 P1.5/TA0, 18 P1.6/TA1, 19 P1.7/TA2, 20 P2.0/ACLK/CA2, 21 P2.1/TAINCLK/CA3, 22 P2.2/CAOUT/TA0/CA4, 23 P2.3/CA0/TA1, 24 P2.4/CA1/TA2, 25 P2.5/Rosc/CA5, 26 P2.6/ADC12CLK/DMAE0/CA6, 27 P2.7/TA0/CA7, 28 P3.0/UCB0STE/UCA0CLK, 29 P3.1/UCB0SIMO/UCB0SDA, 30 P3.2/UCB0SOMI/UCB0SCL, 31 P3.3/UCB0CLK/UCA0STE, 32 P3.4/UCA0TXD/UCA0SIMO, 33 P3.5/UCA0RXD/UCA0SOMI, 34 P3.6/UCA1TXD/UCA1SIMO, 35 P3.7/UCA1RXD/UCA1SOMI, 36 P4.0/TB0, 37 P4.1/TB1, 38 P4.2/TB2, 39 P4.3/TB3, 40 P4.4/TB4, 41 P4.5/TB5, 42 P4.6/TB6, 43 P4.7/TBCLK, 44 P5.0/UCB1STE/UCA1CLK, 45 P5.1/UCB1SIMO/UCB1SDA, 46 P5.2/UCB1SOMI/UCB1SCL, 47 P5.3/UCB1CLK/UCA1STE, 48 P5.4/MCLK, 49 P5.5/SMCLK, 50 P5.6/ACLK, 51 P5.7/TBOUTH/SVSOUT, 52 XT2OUT, 53 XT2IN, 54 TDO/TDI, 55 TDI/TCLK, 56 TMS, 57 TCK, 58 ~{RST}/NMI, 59 P6.0/A0, 60 P6.1/A1, 61 P6.2/A2, 62 AVss, 63 DVss1, 64 AVcc

## MSP430F261XIPN
designator U?
MSP430F261XIPN
footprint S-PQFP-G80
pins: 1 DVcc1, 2 P6.3/A3, 3 P6.4/A4, 4 P6.5/A5/DAC1, 5 P6.6/A6/DAC0, 6 P6.7/A7/DAC1/SVSIN, 7 VREF+, 8 XIN, 9 XOUT, 10 VeREF+/DAC0, 11 VREF-/VeREF-, 12 P1.0/TACLK/CAOUT, 13 P1.1/TA0, 14 P1.2/TA1, 15 P1.3/TA2, 16 P1.4/SMCLK, 17 P1.5/TA0, 18 P1.6/TA1, 19 P1.7/TA2, 20 P2.0/ACLK/CA2, 21 P2.1/TAINCLK/CA3, 22 P2.2/CAOUT/TA0/CA4, 23 P2.3/CA0/TA1, 24 P2.4/CA1/TA2, 25 P2.5/Rosc/CA5, 26 P2.6/ADC12CLK/DMAE0/CA6, 27 P2.7/TA0/CA7, 28 P3.0/UCB0STE/UCA0CLK, 29 P3.1/UCB0SIMO/UCB0SDA, 30 P3.2/UCB0SOMI/UCB0SCL, 31 P3.3/UCB0CLK/UCA0STE, 32 P3.4/UCA0TXD/UCA0SIMO, 33 P3.5/UCA0RXD/UCA0SOMI, 34 P3.6/UCA1TXD/UCA1SIMO, 35 P3.7/UCA1RXD/UCA1SOMI, 36 P4.0/TB0, 37 P4.1/TB1, 38 P4.2/TB2, 39 P4.3/TB3, 40 P4.4/TB4, 41 P4.5/TB5, 42 P4.6/TB6, 43 P4.7/TBCLK, 44 P5.0/UCB1STE/UCA1CLK, 45 P5.1/UCB1SIMO/UCB1SDA, 46 P5.2/UCB1SOMI/UCB1SCL, 47 P5.3/UCB1CLK/UCA1STE, 48 P5.4/MCLK, 49 P5.5/SMCLK, 50 P5.6/ACLK, 51 P5.7/TBOUTH/SVSOUT, 52 DVcc2, 53 DVss2, 54 P7.0, 55 P7.1, 56 P7.2, 57 P7.3, 58 P7.4, 59 P7.5, 60 P7.6, 61 P7.7, 62 P8.0, 63 P8.1, 64 P8.2, 65 P8.3, 66 P8.4, 67 P8.5, 68 P8.6/XT2OUT, 69 P8.7/XT2IN, 70 TDO/TDI, 71 TDI/TCLK, 72 TMS, 73 TCK, 74 ~{RST}/NMI, 75 P6.0/A0, 76 P6.1/A1, 77 P6.2/A2, 78 AVss, 79 DVss1, 80 AVcc

## MSP430F412/413
designator U?
footprint S-PQFP-G64
pins: 1 DVcc (power), 2 P6.3 (power), 3 P6.4 (power), 4 P6.5 (power), 5 P6.6 (power), 6 P6.7 (power), 7 NC (power), 8 XIN (power), 9 XOUT (power), 10 NC (power), 11 NC (power), 12 P5.1/S0 (power), 13 P5.0/S1 (power), 14 P4.7/S2 (power), 15 P4.6/S3 (power), 16 P4.5/S4 (power), 17 P4.4/S5 (power), 18 P4.3/S6 (power), 19 P4.2/S7 (power), 20 P4.1/S8 (power), 21 P4.0/S9 (power), 22 P3.7/S10 (power), 23 P3.6/S11 (power), 24 P3.5/S12 (power), 25 P3.4/S13 (power), 26 P3.3/S14 (power), 27 P3.2/S15 (power), 28 P3.1/S16 (power), 29 P3.0/S17 (power), 30 P2.7/S18 (power), 31 P2.6/CAOUT/S19 (power), 32 P2.5/S20 (power), 33 P2.4/S21 (power), 34 P2.3/S22 (power), 35 P2.2/S23 (power), 36 COM0 (power), 37 P5.2/COM1 (power), 38 P5.3/COM2 (power), 39 P5.4/COM3 (power), 40 R03 (power), 41 P5.5/R13 (power), 42 P5.6/R23 (power), 43 P5.7/R33 (power), 44 P2.1 (power), 45 P2.0/TA2 (power), 46 P1.7/CA1 (power), 47 P1.6/CA0 (power), 48 P1.5/TACLK/ACLK (power), 49 P1.4 (power), 50 P1.3/SVSout (power), 51 P1.2/TA1 (power), 52 P1.1/TA0/MCLK (power), 53 P1.0/TA0 (power), 54 TDO/TDI (power), 55 TDI/TCLK (power), 56 TMS (power), 57 TCK (power), 58 ~{RS}T/NMI (power), 59 P6.0 (power), 60 P6.1 (power), 61 P6.2 (power), 62 AVss (power), 63 DVss (power), 64 AVcc (power)

## MSP430F413IRTDR
designator U?
8 MHz Mixed Signal Microcontroller with 8 KB Flash, 256 B SRAM and 48 GPIOs, -40 to 85 degC, 64-pin QFN (RTD), Green (RoHS & no Sb/Br); 1.库作者: 冰凌猫; 2.库版本: v2.0 (2021.03.30); 3.交流分享: Q群514746572,开源更新,欢迎一起交流学习PCB设计; 4.作者声明: 旨为整合最全库集,欢迎转载,禁止商用！-冰凌猫; 5.备注说明: 该库已二次整合过网上各热销库,基本最全,无需重复搜购安装
footprint QFN64 9x9_N (64脚，长x宽x高：9x9x1mm，脚距：0.5mm)
pins: 1 DVCC (power) "Digital supply voltage, positive terminal. Supplies all parts, except those which are supplied via AVCC.", 2 P6.3 (io) "General-purpose digital I/O", 3 P6.4 (io) "General-purpose digital I/O", 4 P6.5 (io) "General-purpose digital I/O", 5 P6.6 (io) "General-purpose digital I/O", 6 P6.7 (io) "General-purpose digital I/O", 7 NC "Not internally connected. Connection to VSS recommended.", 8 XIN "Input port for crystal oscillator XT1. Standard or watch crystals can be connected.", 9 XOUT "Output terminal of crystal oscillator XT1.", 10 NC "Not internally connected. Connection to VSS recommended.", 11 NC "Not internally connected. Connection to VSS recommended.", 12 P5.1/S0 (io), 13 P5.0/S1 (io), 14 P4.7/S2 (io), 15 P4.6/S3 (io), 16 P4.5/S4 (io), 17 P4.4/S5 (io), 18 P4.3/S6 (io), 19 P4.2/S7 (io), 20 P4.1/S8 (io), 21 P4.0/S9 (io), 22 P3.7/S10 (io), 23 P3.6/S11 (io), 24 P3.5/S12 (io), 25 P3.4/S13 (io), 26 P3.3/S14 (io), 27 P3.2/S15 (io), 28 P3.1/S16 (io), 29 P3.0/S17 (io), 30 P2.7/S18 (io), 31 P2.6/CAOUT/S19 (io), 32 P2.5/S20 (io), 33 P2.4/S21 (io), 34 P2.3/S22 (io), 35 P2.2/S23 (io), 36 COM0 (out) "Common output. COM0-3 are used for LCD backplanes", 37 P5.2/COM1 (io), 38 P5.3/COM2 (io), 39 P5.4/COM3 (io), 40 R03 (in) "Input port of fourth positive (lowest) analog LCD level (V5)", 41 P5.5/R13 (io), 42 P5.6/R23 (io), 43 P5.7/R33 (io), 44 P2.1 (io) "General-purpose digital I/O", 45 P2.0/TA2 (io), 46 P1.7/CA1 (io), 47 P1.6/CA0 (io), 48 P1.5/TACLK/ACLK (io), 49 P1.4 (io) "General-purpose digital I/O", 50 P1.3/SVSOUT (io), 51 P1.2/TA1 (io), 52 P1.1/TA0/MCLK (io), 53 P1.0/TA0 (io), 54 TDO/TDI (io), 55 TDI/TCLK (in), 56 TMS (in) "Test mode select. TMS is used as an input port for device programming and test.", 57 TCK (in) "Test clock. TCK is the clock input port for device programming and test.", 58 ~{RST}/NMI (in), 59 P6.0 (io) "General-purpose digital I/O", 60 P6.1 (io) "General-purpose digital I/O", 61 P6.2 (io) "General-purpose digital I/O", 62 AVSS (power) "Negative terminal that supplies SVS, brownout, oscillator, comparator_A. Needs to be externally connected to DVSS.", 63 DVSS (power) "Digital supply voltage, negative terminal. Supplies all digital parts, except those which are supplied via AVCC/AVSS.", 64 AVCC (power) "Positive terminal that supplies SVS, brownout, oscillator, comparator_A, port 1, and LCD resistive divider circuitry; must not power up prior to DVCC.", 65 QFN PAD (power)

## MSP430F415/417
designator U?
footprint S-PQFP-G64
pins: 1 DVcc (power), 2 P6.3 (power), 3 P6.4 (power), 4 P6.5 (power), 5 P6.6 (power), 6 P6.7 (power), 7 NC (power), 8 XIN (power), 9 XOUT (power), 10 AVss2 (power), 11 NC (power), 12 P5.1/S0 (power), 13 P5.0/S1 (power), 14 P4.7/S2 (power), 15 P4.6/S3 (power), 16 P4.5/S4 (power), 17 P4.4/S5 (power), 18 P4.3/S6 (power), 19 P4.2/S7 (power), 20 P4.1/S8 (power), 21 P4.0/S9 (power), 22 P3.7/S10 (power), 23 P3.6/S11 (power), 24 P3.5/S12 (power), 25 P3.4/S13 (power), 26 P3.3/S14 (power), 27 P3.2/S15 (power), 28 P3.1/S16 (power), 29 P3.0/S17 (power), 30 P2.7/S18 (power), 31 P2.6/CAOUT/S19 (power), 32 P2.5/TA1CLK/S20 (power), 33 P2.4/TA1.4/S21 (power), 34 P2.3/TA1.3/S22 (power), 35 P2.2/TA1.2/S23 (power), 36 COM0 (power), 37 P5.2/COM1 (power), 38 P5.3/COM2 (power), 39 P5.4/COM3 (power), 40 R03 (power), 41 P5.5/R13 (power), 42 P5.6/R23 (power), 43 P5.7/R33 (power), 44 P2.1/TA1.1 (power), 45 P2.0/TA0.2 (power), 46 P1.7/CA1 (power), 47 P1.6/CA0 (power), 48 P1.5/TA0CLK/ACLK (power), 49 P1.4/TA1.0 (power), 50 P1.3/TA1.0/SVSout (power), 51 P1.2/TA0.1 (power), 52 P1.1/TA0.0/MCLK (power), 53 P1.0/TA0.0 (power), 54 TDO/TDI (power), 55 TDI/TCLK (power), 56 TMS (power), 57 TCK (power), 58 ~{RS}T/NMI (power), 59 P6.0 (power), 60 P6.1 (power), 61 P6.2 (power), 62 AVss1 (power), 63 DVss (power), 64 AVcc (power)

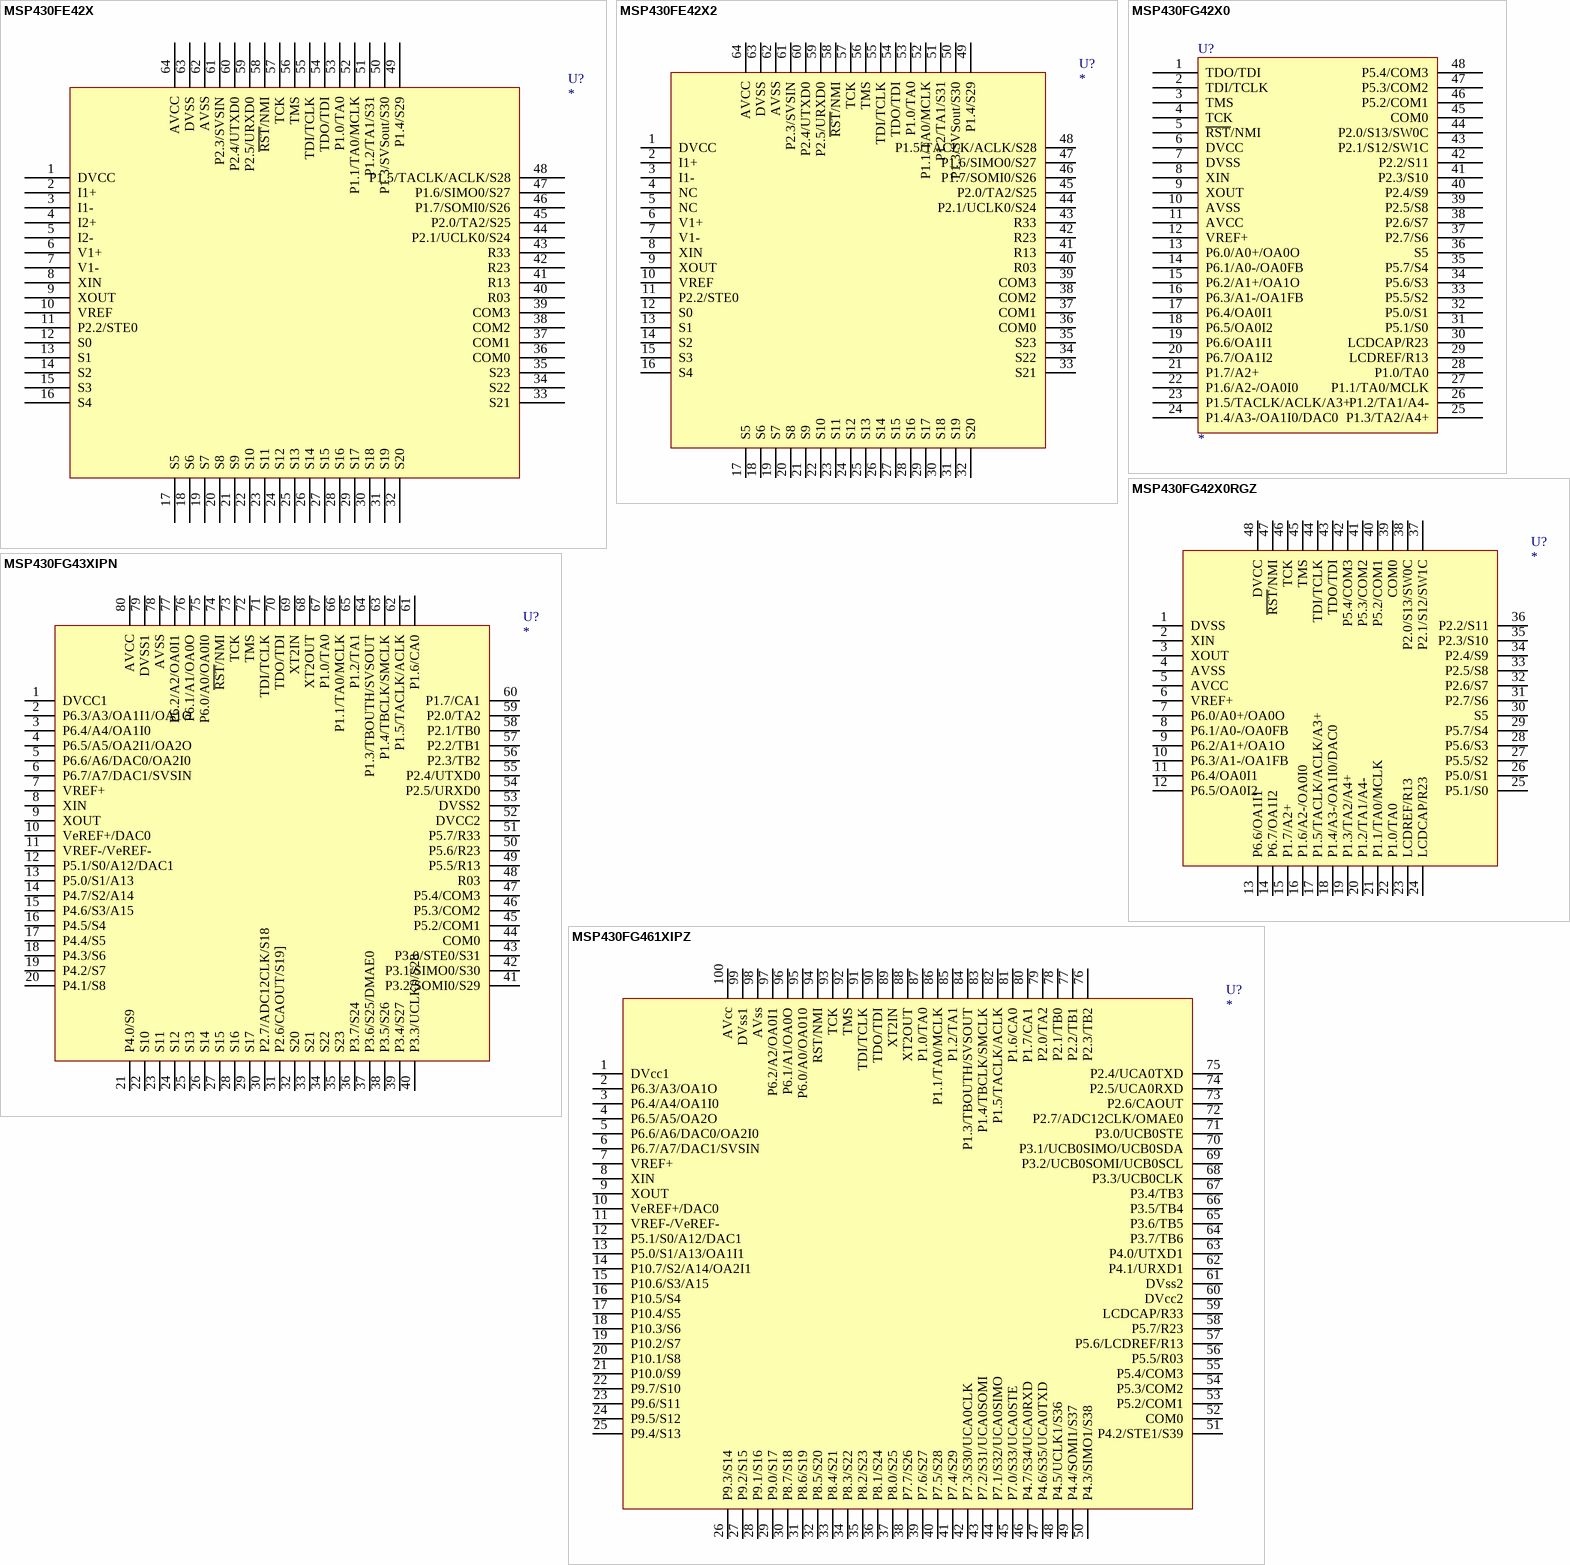
[diagram p10: symbols MSP430FE42X to MSP430FG461XIPZ]

## MSP430FE42X
designator U?
footprint S-PQFP-G64
pins: 1 DVCC, 2 I1+, 3 I1-, 4 I2+, 5 I2-, 6 V1+, 7 V1-, 8 XIN, 9 XOUT, 10 VREF, 11 P2.2/STE0, 12 S0, 13 S1, 14 S2, 15 S3, 16 S4, 17 S5, 18 S6, 19 S7, 20 S8, 21 S9, 22 S10, 23 S11, 24 S12, 25 S13, 26 S14, 27 S15, 28 S16, 29 S17, 30 S18, 31 S19, 32 S20, 33 S21, 34 S22, 35 S23, 36 COM0, 37 COM1, 38 COM2, 39 COM3, 40 R03, 41 R13, 42 R23, 43 R33, 44 P2.1/UCLK0/S24, 45 P2.0/TA2/S25, 46 P1.7/SOMI0/S26, 47 P1.6/SIMO0/S27, 48 P1.5/TACLK/ACLK/S28, 49 P1.4/S29, 50 P1.3/SVSout/S30, 51 P1.2/TA1/S31, 52 P1.1/TA0/MCLK, 53 P1.0/TA0, 54 TDO/TDI, 55 TDI/TCLK, 56 TMS, 57 TCK, 58 ~{RST}/NMI, 59 P2.5/URXD0, 60 P2.4/UTXD0, 61 P2.3/SVSIN, 62 AVSS, 63 DVSS, 64 AVCC

## MSP430FE42X2
designator U?
footprint S-PQFP-G64
pins: 1 DVCC, 2 I1+, 3 I1-, 4 NC, 5 NC, 6 V1+, 7 V1-, 8 XIN, 9 XOUT, 10 VREF, 11 P2.2/STE0, 12 S0, 13 S1, 14 S2, 15 S3, 16 S4, 17 S5, 18 S6, 19 S7, 20 S8, 21 S9, 22 S10, 23 S11, 24 S12, 25 S13, 26 S14, 27 S15, 28 S16, 29 S17, 30 S18, 31 S19, 32 S20, 33 S21, 34 S22, 35 S23, 36 COM0, 37 COM1, 38 COM2, 39 COM3, 40 R03, 41 R13, 42 R23, 43 R33, 44 P2.1/UCLK0/S24, 45 P2.0/TA2/S25, 46 P1.7/SOMI0/S26, 47 P1.6/SIMO0/S27, 48 P1.5/TACLK/ACLK/S28, 49 P1.4/S29, 50 P1.3/SVSout/S30, 51 P1.2/TA1/S31, 52 P1.1/TA0/MCLK, 53 P1.0/TA0, 54 TDO/TDI, 55 TDI/TCLK, 56 TMS, 57 TCK, 58 ~{RST}/NMI, 59 P2.5/URXD0, 60 P2.4/UTXD0, 61 P2.3/SVSIN, 62 AVSS, 63 DVSS, 64 AVCC

## MSP430FG42X0
designator U?
footprint SSOP48
pins: 1 TDO/TDI, 2 TDI/TCLK (power), 3 TMS (power), 4 TCK (power), 5 ~{RST}/NMI (power), 6 DVCC (power), 7 DVSS (power), 8 XIN (power), 9 XOUT (power), 10 AVSS (power), 11 AVCC (power), 12 VREF+ (power), 13 P6.0/A0+/OA0O (power), 14 P6.1/A0-/OA0FB (power), 15 P6.2/A1+/OA1O (power), 16 P6.3/A1-/OA1FB (power), 17 P6.4/OA0I1 (power), 18 P6.5/OA0I2 (power), 19 P6.6/OA1I1 (power), 20 P6.7/OA1I2 (power), 21 P1.7/A2+, 22 P1.6/A2-/OA0I0, 23 P1.5/TACLK/ACLK/A3+, 24 P1.4/A3-/OA1I0/DAC0, 25 P1.3/TA2/A4+, 26 P1.2/TA1/A4-, 27 P1.1/TA0/MCLK, 28 P1.0/TA0, 29 LCDREF/R13, 30 LCDCAP/R23, 31 P5.1/S0, 32 P5.0/S1, 33 P5.5/S2, 34 P5.6/S3, 35 P5.7/S4, 36 S5, 37 P2.7/S6, 38 P2.6/S7, 39 P2.5/S8, 40 P2.4/S9, 41 P2.3/S10, 42 P2.2/S11, 43 P2.1/S12/SW1C, 44 P2.0/S13/SW0C, 45 COM0, 46 P5.2/COM1, 47 P5.3/COM2, 48 P5.4/COM3

## MSP430FG42X0RGZ
designator U?
footprint QLP48
pins: 1 DVSS (power), 2 XIN (power), 3 XOUT (power), 4 AVSS (power), 5 AVCC (power), 6 VREF+ (power), 7 P6.0/A0+/OA0O (power), 8 P6.1/A0-/OA0FB (power), 9 P6.2/A1+/OA1O (power), 10 P6.3/A1-/OA1FB (power), 11 P6.4/OA0I1 (power), 12 P6.5/OA0I2 (power), 13 P6.6/OA1I1 (power), 14 P6.7/OA1I2 (power), 15 P1.7/A2+, 16 P1.6/A2-/OA0I0, 17 P1.5/TACLK/ACLK/A3+, 18 P1.4/A3-/OA1I0/DAC0, 19 P1.3/TA2/A4+, 20 P1.2/TA1/A4-, 21 P1.1/TA0/MCLK, 22 P1.0/TA0, 23 LCDREF/R13, 24 LCDCAP/R23, 25 P5.1/S0, 26 P5.0/S1, 27 P5.5/S2, 28 P5.6/S3, 29 P5.7/S4, 30 S5, 31 P2.7/S6, 32 P2.6/S7, 33 P2.5/S8, 34 P2.4/S9, 35 P2.3/S10, 36 P2.2/S11, 37 P2.1/S12/SW1C, 38 P2.0/S13/SW0C, 39 COM0, 40 P5.2/COM1, 41 P5.3/COM2, 42 P5.4/COM3, 43 TDO/TDI, 44 TDI/TCLK (power), 45 TMS (power), 46 TCK (power), 47 ~{RST}/NMI (power), 48 DVCC (power)

## MSP430FG43XIPN
designator U?
footprint S-PQFP-G80
pins: 1 DVCC1, 2 P6.3/A3/OA1I1/OA1O, 3 P6.4/A4/OA1I0, 4 P6.5/A5/OA2I1/OA2O, 5 P6.6/A6/DAC0/OA2I0, 6 P6.7/A7/DAC1/SVSIN, 7 VREF+, 8 XIN, 9 XOUT, 10 VeREF+/DAC0, 11 VREF-/VeREF-, 12 P5.1/S0/A12/DAC1, 13 P5.0/S1/A13, 14 P4.7/S2/A14, 15 P4.6/S3/A15, 16 P4.5/S4, 17 P4.4/S5, 18 P4.3/S6, 19 P4.2/S7, 20 P4.1/S8, 21 P4.0/S9, 22 S10, 23 S11, 24 S12, 25 S13, 26 S14, 27 S15, 28 S16, 29 S17, 30 P2.7/ADC12CLK/S18, 31 P2.6/CAOUT/S19], 32 S20, 33 S21, 34 S22, 35 S23, 36 P3.7/S24, 37 P3.6/S25/DMAE0, 38 P3.5/S26, 39 P3.4/S27, 40 P3.3/UCLK0/S28, 41 P3.2/SOMI0/S29, 42 P3.1/SIMO0/S30, 43 P3.0/STE0/S31, 44 COM0, 45 P5.2/COM1, 46 P5.3/COM2, 47 P5.4/COM3, 48 R03, 49 P5.5/R13, 50 P5.6/R23, 51 P5.7/R33, 52 DVCC2, 53 DVSS2, 54 P2.5/URXD0, 55 P2.4/UTXD0, 56 P2.3/TB2, 57 P2.2/TB1, 58 P2.1/TB0, 59 P2.0/TA2, 60 P1.7/CA1, 61 P1.6/CA0, 62 P1.5/TACLK/ACLK, 63 P1.4/TBCLK/SMCLK, 64 P1.3/TBOUTH/SVSOUT, 65 P1.2/TA1, 66 P1.1/TA0/MCLK, 67 P1.0/TA0, 68 XT2OUT, 69 XT2IN, 70 TDO/TDI, 71 TDI/TCLK, 72 TMS, 73 TCK, 74 ~{RST}/NMI, 75 P6.0/A0/OA0I0, 76 P6.1/A1/OA0O, 77 P6.2/A2/OA0I1, 78 AVSS, 79 DVSS1, 80 AVCC

## MSP430FG461XIPZ
designator U?
footprint S-PQFP-G100
pins: 1 DVcc1, 2 P6.3/A3/OA1O, 3 P6.4/A4/OA1I0, 4 P6.5/A5/OA2O, 5 P6.6/A6/DAC0/OA2I0, 6 P6.7/A7/DAC1/SVSIN, 7 VREF+, 8 XIN, 9 XOUT, 10 VeREF+/DAC0, 11 VREF-/VeREF-, 12 P5.1/S0/A12/DAC1, 13 P5.0/S1/A13/OA1I1, 14 P10.7/S2/A14/OA2I1, 15 P10.6/S3/A15, 16 P10.5/S4, 17 P10.4/S5, 18 P10.3/S6, 19 P10.2/S7, 20 P10.1/S8, 21 P10.0/S9, 22 P9.7/S10, 23 P9.6/S11, 24 P9.5/S12, 25 P9.4/S13, 26 P9.3/S14, 27 P9.2/S15, 28 P9.1/S16, 29 P9.0/S17, 30 P8.7/S18, 31 P8.6/S19, 32 P8.5/S20, 33 P8.4/S21, 34 P8.3/S22, 35 P8.2/S23, 36 P8.1/S24, 37 P8.0/S25, 38 P7.7/S26, 39 P7.6/S27, 40 P7.5/S28, 41 P7.4/S29, 42 P7.3/S30/UCA0CLK, 43 P7.2/S31/UCA0SOMI, 44 P7.1/S32/UCA0SIMO, 45 P7.0/S33/UCA0STE, 46 P4.7/S34/UCA0RXD, 47 P4.6/S35/UCA0TXD, 48 P4.5/UCLK1/S36, 49 P4.4/SOMI1/S37, 50 P4.3/SIMO1/S38, 51 P4.2/STE1/S39, 52 COM0, 53 P5.2/COM1, 54 P5.3/COM2, 55 P5.4/COM3, 56 P5.5/R03, 57 P5.6/LCDREF/R13, 58 P5.7/R23, 59 LCDCAP/R33, 60 DVcc2, 61 DVss2, 62 P4.1/URXD1, 63 P4.0/UTXD1, 64 P3.7/TB6, 65 P3.6/TB5, 66 P3.5/TB4, 67 P3.4/TB3, 68 P3.3/UCB0CLK, 69 P3.2/UCB0SOMI/UCB0SCL, 70 P3.1/UCB0SIMO/UCB0SDA, 71 P3.0/UCB0STE, 72 P2.7/ADC12CLK/OMAE0, 73 P2.6/CAOUT, 74 P2.5/UCA0RXD, 75 P2.4/UCA0TXD, 76 P2.3/TB2, 77 P2.2/TB1, 78 P2.1/TB0, 79 P2.0/TA2, 80 P1.7/CA1, 81 P1.6/CA0, 82 P1.5/TACLK/ACLK, 83 P1.4/TBCLK/SMCLK, 84 P1.3/TBOUTH/SVSOUT, 85 P1.2/TA1, 86 P1.1/TA0/MCLK, 87 P1.0/TA0, 88 XT2OUT, 89 XT2IN, 90 TDO/TDI, 91 TDI/TCLK, 92 TMS, 93 TCK, 94 RST/NMI, 95 P6.0/A0/OA010, 96 P6.1/A1/OA0O, 97 P6.2/A2/OA0I1, 98 AVss, 99 DVss1, 100 AVcc

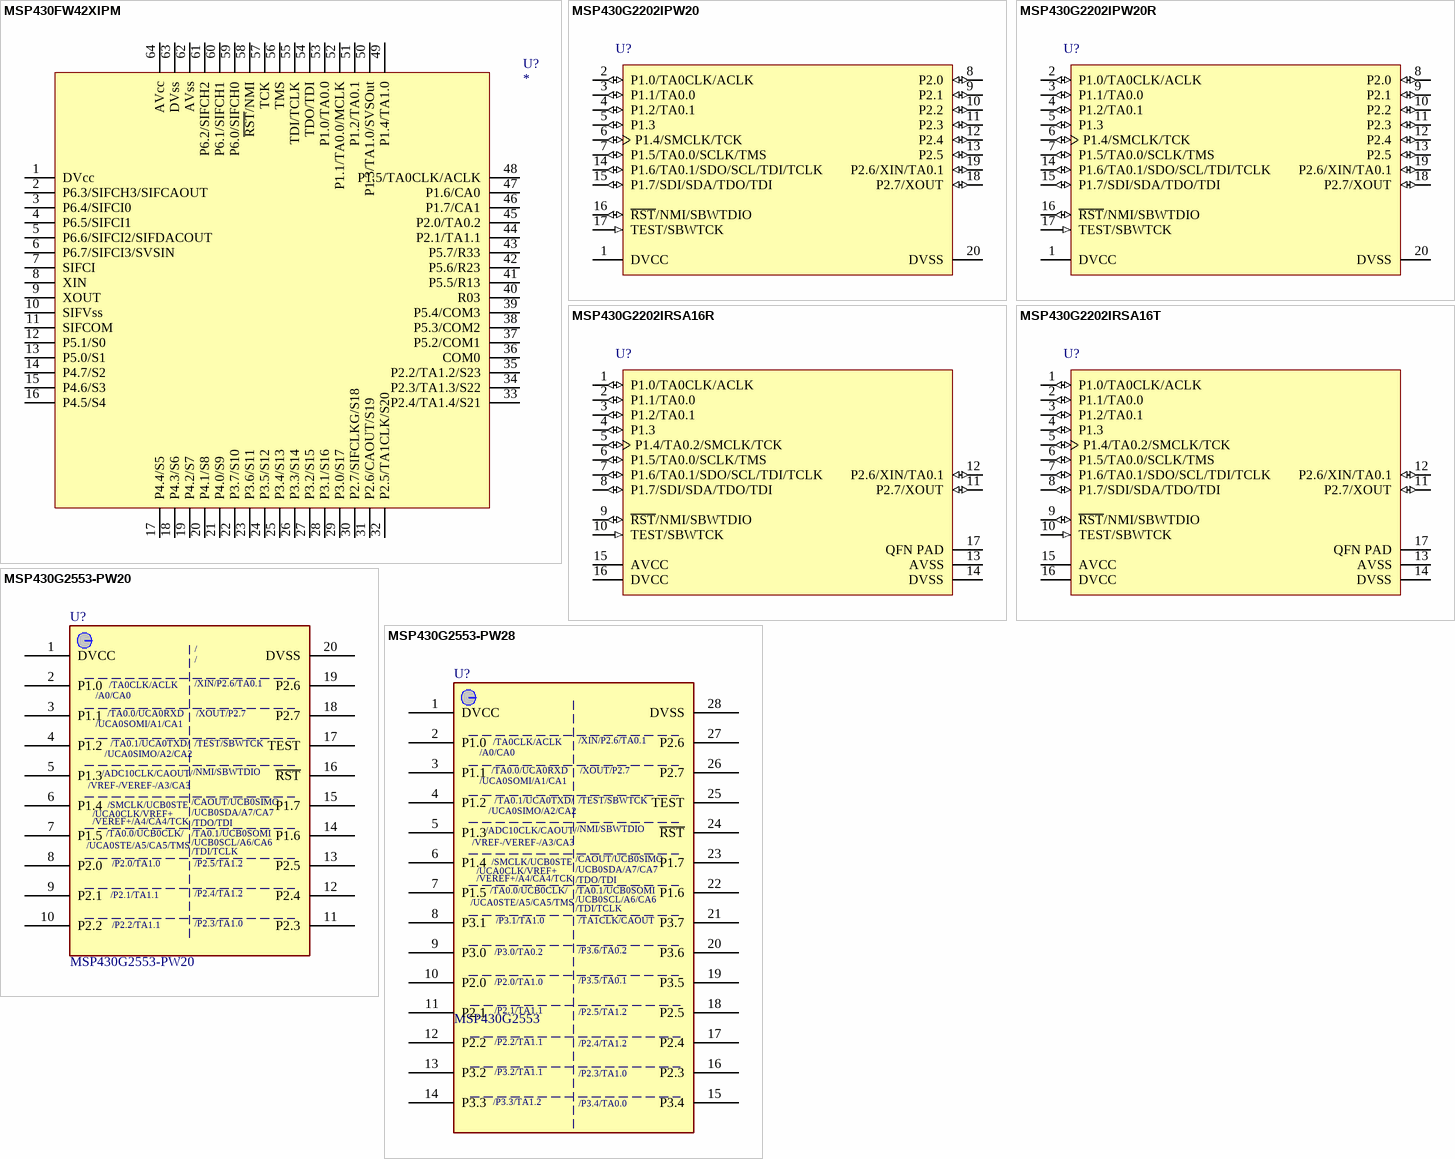
[diagram p11: symbols MSP430FW42XIPM to MSP430G2553-PW28]

## MSP430FW42XIPM
designator U?
footprint S-PQFP-G64
pins: 1 DVcc (power), 2 P6.3/SIFCH3/SIFCAOUT (power), 3 P6.4/SIFCI0 (power), 4 P6.5/SIFCI1 (power), 5 P6.6/SIFCI2/SIFDACOUT (power), 6 P6.7/SIFCI3/SVSIN (power), 7 SIFCI (power), 8 XIN (power), 9 XOUT (power), 10 SIFVss (power), 11 SIFCOM (power), 12 P5.1/S0 (power), 13 P5.0/S1 (power), 14 P4.7/S2 (power), 15 P4.6/S3 (power), 16 P4.5/S4 (power), 17 P4.4/S5 (power), 18 P4.3/S6 (power), 19 P4.2/S7 (power), 20 P4.1/S8 (power), 21 P4.0/S9 (power), 22 P3.7/S10 (power), 23 P3.6/S11 (power), 24 P3.5/S12 (power), 25 P3.4/S13 (power), 26 P3.3/S14 (power), 27 P3.2/S15 (power), 28 P3.1/S16 (power), 29 P3.0/S17 (power), 30 P2.7/SIFCLKG/S18 (power), 31 P2.6/CAOUT/S19 (power), 32 P2.5/TA1CLK/S20 (power), 33 P2.4/TA1.4/S21 (power), 34 P2.3/TA1.3/S22 (power), 35 P2.2/TA1.2/S23 (power), 36 COM0 (power), 37 P5.2/COM1 (power), 38 P5.3/COM2 (power), 39 P5.4/COM3 (power), 40 R03 (power), 41 P5.5/R13 (power), 42 P5.6/R23 (power), 43 P5.7/R33 (power), 44 P2.1/TA1.1 (power), 45 P2.0/TA0.2 (power), 46 P1.7/CA1 (power), 47 P1.6/CA0 (power), 48 P1.5/TA0CLK/ACLK (power), 49 P1.4/TA1.0 (power), 50 P1.3/TA1.0/SVSOut (power), 51 P1.2/TA0.1 (power), 52 P1.1/TA0.0/MCLK (power), 53 P1.0/TA0.0 (power), 54 TDO/TDI (power), 55 TDI/TCLK (power), 56 TMS (power), 57 TCK (power), 58 ~{RST}/NMI (power), 59 P6.0/SIFCH0 (power), 60 P6.1/SIFCH1 (power), 61 P6.2/SIFCH2 (power), 62 AVss (power), 63 DVss (power), 64 AVcc (power)

## MSP430G2202IPW20
designator U?
16 MHz Mixed Signal Microcontroller with 2 KB Flash, 256 B SRAM and 16 GPIOs, 20-pin SOP (PW), Green (RoHS & no Sb/Br); 1.库作者: 冰凌猫; 2.库版本: v2.0 (2021.03.30); 3.交流分享: Q群514746572,开源更新,欢迎一起交流学习PCB设计; 4.作者声明: 旨为整合最全库集,欢迎转载,禁止商用！-冰凌猫; 5.备注说明: 该库已二次整合过网上各热销库,基本最全,无需重复搜购安装
footprint TSSOP-24 (7.80x4.40x1.00 e=0.65)
pins: 1 DVCC (power) "Supply voltage", 2 P1.0/TA0CLK/ACLK (io), 3 P1.1/TA0.0 (io), 4 P1.2/TA0.1 (io), 5 P1.3 (io) "General-purpose digital I/O pin", 6 P1.4/SMCLK/TCK (io), 7 P1.5/TA0.0/SCLK/TMS (io), 8 P2.0 (io) "General-purpose digital I/O pin", 9 P2.1 (io) "General-purpose digital I/O pin", 10 P2.2 (io) "General-purpose digital I/O pin", 11 P2.3 (io) "General-purpose digital I/O pin", 12 P2.4 (io) "General-purpose digital I/O pin", 13 P2.5 (io) "General-purpose digital I/O pin", 14 P1.6/TA0.1/SDO/SCL/TDI/TCLK (io), 15 P1.7/SDI/SDA/TDO/TDI (io), 16 ~{RST}/NMI/SBWTDIO (io), 17 TEST/SBWTCK (in), 18 P2.7/XOUT (io), 19 P2.6/XIN/TA0.1 (io), 20 DVSS (power) "Ground reference"

## MSP430G2202IPW20R
designator U?
16 MHz Mixed Signal Microcontroller with 2 KB Flash, 256 B SRAM and 16 GPIOs, 20-pin SOP (PW), Green (RoHS & no Sb/Br); 1.库作者: 冰凌猫; 2.库版本: v2.0 (2021.03.30); 3.交流分享: Q群514746572,开源更新,欢迎一起交流学习PCB设计; 4.作者声明: 旨为整合最全库集,欢迎转载,禁止商用！-冰凌猫; 5.备注说明: 该库已二次整合过网上各热销库,基本最全,无需重复搜购安装
footprint TSSOP16_N (5*6.4*1mm（长宽高）)
pins: 1 DVCC (power) "Supply voltage", 2 P1.0/TA0CLK/ACLK (io), 3 P1.1/TA0.0 (io), 4 P1.2/TA0.1 (io), 5 P1.3 (io) "General-purpose digital I/O pin", 6 P1.4/SMCLK/TCK (io), 7 P1.5/TA0.0/SCLK/TMS (io), 8 P2.0 (io) "General-purpose digital I/O pin", 9 P2.1 (io) "General-purpose digital I/O pin", 10 P2.2 (io) "General-purpose digital I/O pin", 11 P2.3 (io) "General-purpose digital I/O pin", 12 P2.4 (io) "General-purpose digital I/O pin", 13 P2.5 (io) "General-purpose digital I/O pin", 14 P1.6/TA0.1/SDO/SCL/TDI/TCLK (io), 15 P1.7/SDI/SDA/TDO/TDI (io), 16 ~{RST}/NMI/SBWTDIO (io), 17 TEST/SBWTCK (in), 18 P2.7/XOUT (io), 19 P2.6/XIN/TA0.1 (io), 20 DVSS (power) "Ground reference"

## MSP430G2202IRSA16R
designator U?
16 MHz Mixed Signal Microcontroller with 2 KB Flash, 256 B SRAM and 16 GPIOs, 16-pin QFN (RSA), Green (RoHS & no Sb/Br); 1.库作者: 冰凌猫; 2.库版本: v2.0 (2021.03.30); 3.交流分享: Q群514746572,开源更新,欢迎一起交流学习PCB设计; 4.作者声明: 旨为整合最全库集,欢迎转载,禁止商用！-冰凌猫; 5.备注说明: 该库已二次整合过网上各热销库,基本最全,无需重复搜购安装
footprint QFN16 4x4_N (16脚，长x宽x高：4x4x0.8mm，脚距：0.65mm)
pins: 1 P1.0/TA0CLK/ACLK (io), 2 P1.1/TA0.0 (io), 3 P1.2/TA0.1 (io), 4 P1.3 (io) "General-purpose digital I/O pin", 5 P1.4/TA0.2/SMCLK/TCK (io), 6 P1.5/TA0.0/SCLK/TMS (io), 7 P1.6/TA0.1/SDO/SCL/TDI/TCLK (io), 8 P1.7/SDI/SDA/TDO/TDI (io), 9 ~{RST}/NMI/SBWTDIO (io), 10 TEST/SBWTCK (in), 11 P2.7/XOUT (io), 12 P2.6/XIN/TA0.1 (io), 13 AVSS (power) "Ground reference", 14 DVSS (power) "Ground reference", 15 AVCC (power) "Supply voltage", 16 DVCC (power) "Supply voltage", 17 QFN PAD (power) "QFN package pad connection to VSS recommended."

## MSP430G2202IRSA16T
designator U?
16 MHz Mixed Signal Microcontroller with 2 KB Flash, 256 B SRAM and 16 GPIOs, 16-pin QFN (RSA), Green (RoHS & no Sb/Br); 1.库作者: 冰凌猫; 2.库版本: v2.0 (2021.03.30); 3.交流分享: Q群514746572,开源更新,欢迎一起交流学习PCB设计; 4.作者声明: 旨为整合最全库集,欢迎转载,禁止商用！-冰凌猫; 5.备注说明: 该库已二次整合过网上各热销库,基本最全,无需重复搜购安装
footprint QFN16 4x4_N (16脚，长x宽x高：4x4x0.8mm，脚距：0.65mm)
pins: 1 P1.0/TA0CLK/ACLK (io), 2 P1.1/TA0.0 (io), 3 P1.2/TA0.1 (io), 4 P1.3 (io) "General-purpose digital I/O pin", 5 P1.4/TA0.2/SMCLK/TCK (io), 6 P1.5/TA0.0/SCLK/TMS (io), 7 P1.6/TA0.1/SDO/SCL/TDI/TCLK (io), 8 P1.7/SDI/SDA/TDO/TDI (io), 9 ~{RST}/NMI/SBWTDIO (io), 10 TEST/SBWTCK (in), 11 P2.7/XOUT (io), 12 P2.6/XIN/TA0.1 (io), 13 AVSS (power) "Ground reference", 14 DVSS (power) "Ground reference", 15 AVCC (power) "Supply voltage", 16 DVCC (power) "Supply voltage", 17 QFN PAD (power) "QFN package pad connection to VSS recommended."

## MSP430G2553-PW20
designator U?
footprint TSSOP-20
pins: 1 DVCC, 2 P1.0, 3 P1.1, 4 P1.2, 5 P1.3, 6 P1.4, 7 P1.5, 8 P2.0, 9 P2.1, 10 P2.2, 11 P2.3, 12 P2.4, 13 P2.5, 14 P1.6, 15 P1.7, 16 ~{RST}, 17 TEST, 18 P2.7, 19 P2.6, 20 DVSS
text: /; /TA0CLK/ACLK; /XIN/P2.6/TA0.1; /A0/CA0; /TA0.0/UCA0RXD; /XOUT/P2.7; /UCA0SOMI/A1/CA1; TA0.1/UCA0TXD/; /TEST/SBWTCK; UCA0SIMO/A2/CA2; /NMI/SBWTDIO; /ADC10CLK/CAOUT/; /VREF-/VEREF-/A3/CA3; /CAOUT/UCB0SIMO; /SMCLK/UCB0STE; /UCA0CLK/VREF+; /UCB0SDA/A7/CA7; /VEREF+/A4/CA4/TCK; /TDO/TDI; /TA0.0/UCB0CLK/; /TA0.1/UCB0SOMI; /UCA0STE/A5/CA5/TMS; /UCB0SCL/A6/CA6; /TDI/TCLK; /P2.0/TA1.0; /P2.5/TA1.2; /P2.1/TA1.1; /P2.4/TA1.2; /P2.2/TA1.1; /P2.3/TA1.0

## MSP430G2553-PW28
designator U?, comment MSP430G2553
MSP430G2553-PW28
footprint TSSOP-28 (9.8*6.4*1mm（长宽高）)
pins: 1 DVCC, 2 P1.0, 3 P1.1, 4 P1.2, 5 P1.3, 6 P1.4, 7 P1.5, 8 P3.1, 9 P3.0, 10 P2.0, 11 P2.1, 12 P2.2, 13 P3.2, 14 P3.3, 15 P3.4, 16 P2.3, 17 P2.4, 18 P2.5, 19 P3.5, 20 P3.6, 21 P3.7, 22 P1.6, 23 P1.7, 24 ~{RST}, 25 TEST, 26 P2.7, 27 P2.6, 28 DVSS
text: /TA0CLK/ACLK; /XIN/P2.6/TA0.1; /A0/CA0; /TA0.0/UCA0RXD; /XOUT/P2.7; /UCA0SOMI/A1/CA1; /; TA0.1/UCA0TXD/; /TEST/SBWTCK; UCA0SIMO/A2/CA2; /NMI/SBWTDIO; /ADC10CLK/CAOUT/; /VREF-/VEREF-/A3/CA3; /CAOUT/UCB0SIMO; /SMCLK/UCB0STE; /UCA0CLK/VREF+; /UCB0SDA/A7/CA7; /VEREF+/A4/CA4/TCK; /TDO/TDI; /TA0.0/UCB0CLK/; /TA0.1/UCB0SOMI; /UCA0STE/A5/CA5/TMS; /UCB0SCL/A6/CA6; /TDI/TCLK; /P3.1/TA1.0; /TA1CLK/CAOUT; /P3.0/TA0.2; /P3.6/TA0.2; /P2.0/TA1.0; /P3.5/TA0.1; /P2.1/TA1.1; /P2.5/TA1.2; /P2.2/TA1.1; /P2.4/TA1.2; /P3.2/TA1.1; /P2.3/TA1.0; /P3.3/TA1.2; /P3.4/TA0.0